# Altium schematic symbol library Luminary+Micro.SchLib: 208 symbols (part 3 of 5)
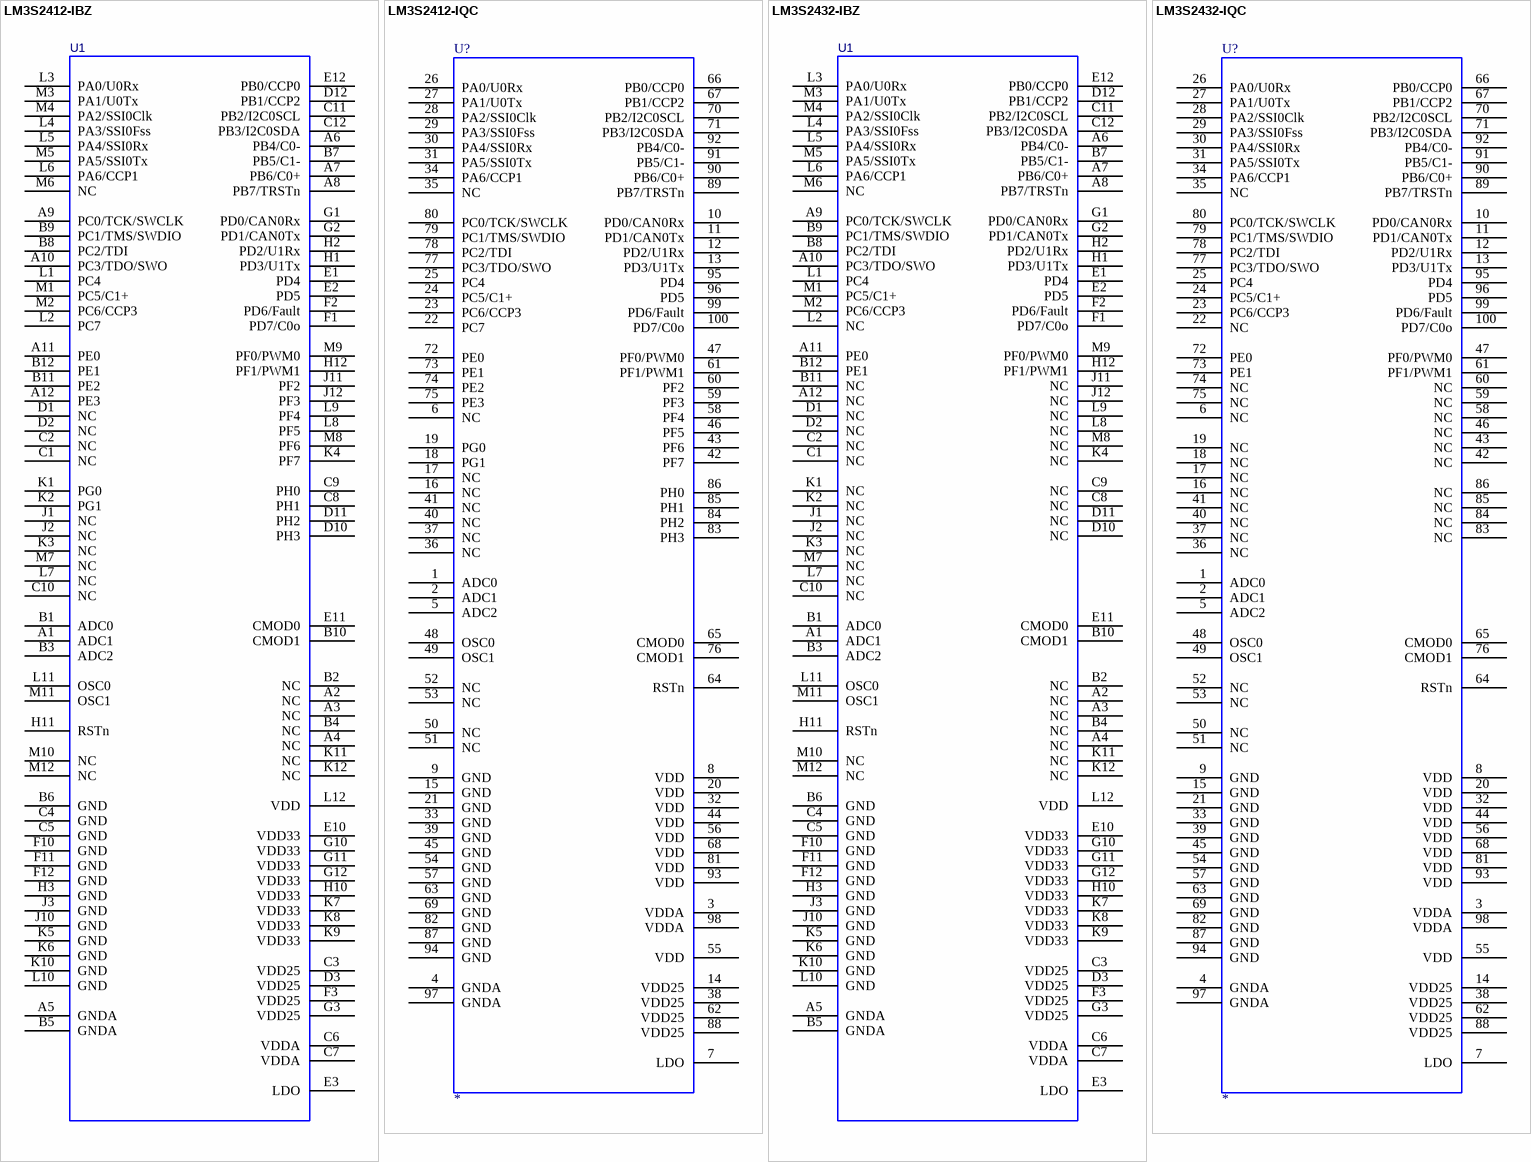
[diagram p50: symbols LM3S2412-IBZ to LM3S2432-IQC]

## LM3S2432-IBZ
designator U1
Stellaris ARM Cortex-M3 Microcontroller; MFG: Luminary Micro; Ordering: LM3S2432-IBZ; LMI Class: Fury
footprint BGA108C80P12X12_1000X1000X150 (BGA, 108-Leads, Body 10.0x10.0mm,  Pitch 0.80mm)
pins: A1 ADC1, A2 NC, A3 NC, A4 NC, A5 GNDA, A6 PB4/C0-, A7 PB6/C0+, A8 PB7/TRSTn, A9 PC0/TCK/SWCLK, A10 PC3/TDO/SWO, A11 PE0, A12 NC, B1 ADC0, B2 NC, B3 ADC2, B4 NC, B5 GNDA, B6 GND, B7 PB5/C1-, B8 PC2/TDI, B9 PC1/TMS/SWDIO, B10 CMOD1, B11 NC, B12 PE1, C1 NC, C2 NC, C3 VDD25, C4 GND, C5 GND, C6 VDDA, C7 VDDA, C8 NC, C9 NC, C10 NC, C11 PB2/I2C0SCL, C12 PB3/I2C0SDA, D1 NC, D2 NC, D3 VDD25, D10 NC, D11 NC, D12 PB1/CCP2, E1 PD4, E2 PD5, E3 LDO, E10 VDD33, E11 CMOD0, E12 PB0/CCP0, F1 PD7/C0o, F2 PD6/Fault, F3 VDD25, F10 GND, F11 GND, F12 GND, G1 PD0/CAN0Rx, G2 PD1/CAN0Tx, G3 VDD25, G10 VDD33, G11 VDD33, G12 VDD33, H1 PD3/U1Tx, H2 PD2/U1Rx, H3 GND, H10 VDD33, H11 RSTn, H12 PF1/PWM1, J1 NC, J2 NC, J3 GND, J10 GND, J11 NC, J12 NC, K1 NC, K2 NC, K3 NC, K4 NC, K5 GND, K6 GND, K7 VDD33, K8 VDD33, K9 VDD33, K10 GND, K11 NC, K12 NC, L1 PC4, L2 NC, L3 PA0/U0Rx, L4 PA3/SSI0Fss, L5 PA4/SSI0Rx, L6 PA6/CCP1, L7 NC, L8 NC, L9 NC, L10 GND, L11 OSC0, L12 VDD, M1 PC5/C1+, M2 PC6/CCP3, M3 PA1/U0Tx, M4 PA2/SSI0Clk, M5 PA5/SSI0Tx, M6 NC, M7 NC, M8 NC, M9 PF0/PWM0, M10 NC, M11 OSC1, M12 NC

## LM3S2432-IQC
designator U?
Stellaris ARM Cortex-M3 Microcontroller; MFG: Luminary Micro; Ordering: LM3S2432-IQC; LMI Class: Fury
footprint QFP50P1600X1600X160-100N
pins: 1 ADC0, 2 ADC1, 3 VDDA, 4 GNDA, 5 ADC2, 6 NC, 7 LDO, 8 VDD, 9 GND, 10 PD0/CAN0Rx, 11 PD1/CAN0Tx, 12 PD2/U1Rx, 13 PD3/U1Tx, 14 VDD25, 15 GND, 16 NC, 17 NC, 18 NC, 19 NC, 20 VDD, 21 GND, 22 NC, 23 PC6/CCP3, 24 PC5/C1+, 25 PC4, 26 PA0/U0Rx, 27 PA1/U0Tx, 28 PA2/SSI0Clk, 29 PA3/SSI0Fss, 30 PA4/SSI0Rx, 31 PA5/SSI0Tx, 32 VDD, 33 GND, 34 PA6/CCP1, 35 NC, 36 NC, 37 NC, 38 VDD25, 39 GND, 40 NC, 41 NC, 42 NC, 43 NC, 44 VDD, 45 GND, 46 NC, 47 PF0/PWM0, 48 OSC0, 49 OSC1, 50 NC, 51 NC, 52 NC, 53 NC, 54 GND, 55 VDD, 56 VDD, 57 GND, 58 NC, 59 NC, 60 NC, 61 PF1/PWM1, 62 VDD25, 63 GND, 64 RSTn, 65 CMOD0, 66 PB0/CCP0, 67 PB1/CCP2, 68 VDD, 69 GND, 70 PB2/I2C0SCL, 71 PB3/I2C0SDA, 72 PE0, 73 PE1, 74 NC, 75 NC, 76 CMOD1, 77 PC3/TDO/SWO, 78 PC2/TDI, 79 PC1/TMS/SWDIO, 80 PC0/TCK/SWCLK, 81 VDD, 82 GND, 83 NC, 84 NC, 85 NC, 86 NC, 87 GND, 88 VDD25, 89 PB7/TRSTn, 90 PB6/C0+, 91 PB5/C1-, 92 PB4/C0-, 93 VDD, 94 GND, 95 PD4, 96 PD5, 97 GNDA, 98 VDDA, 99 PD6/Fault, 100 PD7/C0o

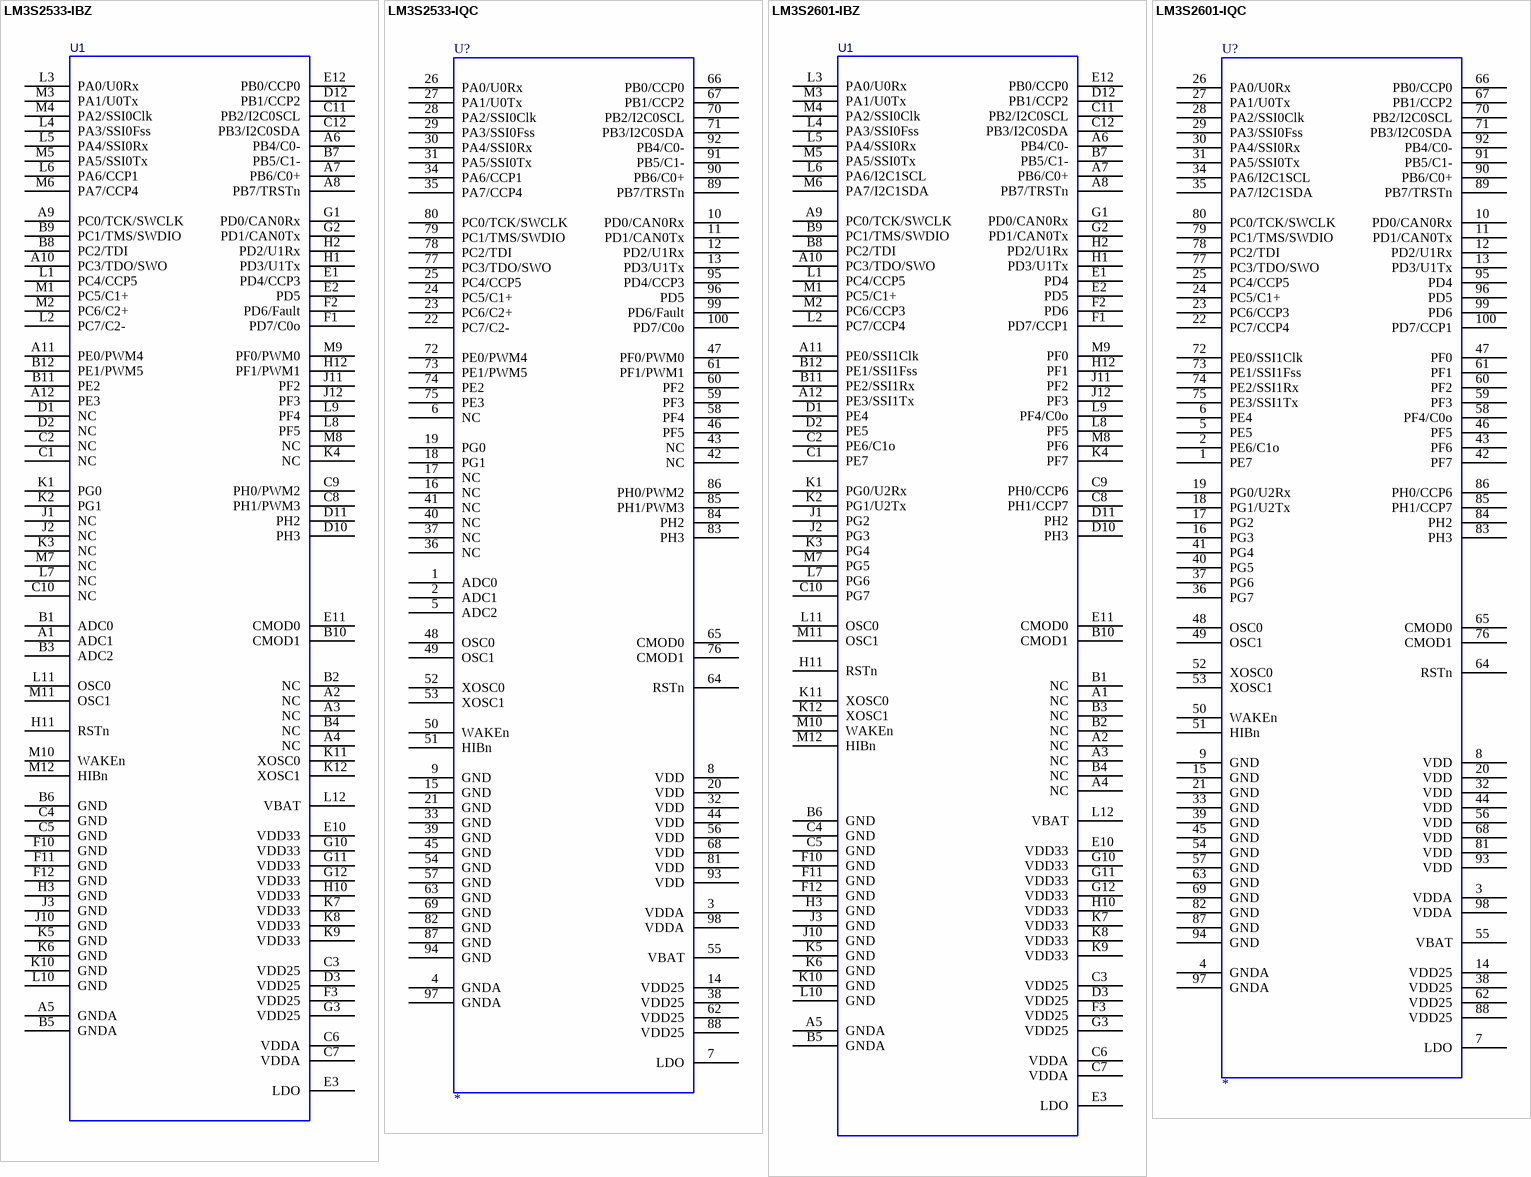
[diagram p20: symbols LM3S2533-IBZ to LM3S2601-IQC]

## LM3S2533-IBZ
designator U1
Stellaris ARM Cortex-M3 Microcontroller; MFG: Luminary Micro; Ordering: LM3S2533-IBZ; LMI Class: Fury
footprint BGA108C80P12X12_1000X1000X150 (BGA, 108-Leads, Body 10.0x10.0mm,  Pitch 0.80mm)
pins: A1 ADC1, A2 NC, A3 NC, A4 NC, A5 GNDA, A6 PB4/C0-, A7 PB6/C0+, A8 PB7/TRSTn, A9 PC0/TCK/SWCLK, A10 PC3/TDO/SWO, A11 PE0/PWM4, A12 PE3, B1 ADC0, B2 NC, B3 ADC2, B4 NC, B5 GNDA, B6 GND, B7 PB5/C1-, B8 PC2/TDI, B9 PC1/TMS/SWDIO, B10 CMOD1, B11 PE2, B12 PE1/PWM5, C1 NC, C2 NC, C3 VDD25, C4 GND, C5 GND, C6 VDDA, C7 VDDA, C8 PH1/PWM3, C9 PH0/PWM2, C10 NC, C11 PB2/I2C0SCL, C12 PB3/I2C0SDA, D1 NC, D2 NC, D3 VDD25, D10 PH3, D11 PH2, D12 PB1/CCP2, E1 PD4/CCP3, E2 PD5, E3 LDO, E10 VDD33, E11 CMOD0, E12 PB0/CCP0, F1 PD7/C0o, F2 PD6/Fault, F3 VDD25, F10 GND, F11 GND, F12 GND, G1 PD0/CAN0Rx, G2 PD1/CAN0Tx, G3 VDD25, G10 VDD33, G11 VDD33, G12 VDD33, H1 PD3/U1Tx, H2 PD2/U1Rx, H3 GND, H10 VDD33, H11 RSTn, H12 PF1/PWM1, J1 NC, J2 NC, J3 GND, J10 GND, J11 PF2, J12 PF3, K1 PG0, K2 PG1, K3 NC, K4 NC, K5 GND, K6 GND, K7 VDD33, K8 VDD33, K9 VDD33, K10 GND, K11 XOSC0, K12 XOSC1, L1 PC4/CCP5, L2 PC7/C2-, L3 PA0/U0Rx, L4 PA3/SSI0Fss, L5 PA4/SSI0Rx, L6 PA6/CCP1, L7 NC, L8 PF5, L9 PF4, L10 GND, L11 OSC0, L12 VBAT, M1 PC5/C1+, M2 PC6/C2+, M3 PA1/U0Tx, M4 PA2/SSI0Clk, M5 PA5/SSI0Tx, M6 PA7/CCP4, M7 NC, M8 NC, M9 PF0/PWM0, M10 WAKEn, M11 OSC1, M12 HIBn

## LM3S2533-IQC
designator U?
Stellaris ARM Cortex-M3 Microcontroller; MFG: Luminary Micro; Ordering: LM3S2533-IQC; LMI Class: Fury
footprint QFP50P1600X1600X160-100N
pins: 1 ADC0, 2 ADC1, 3 VDDA, 4 GNDA, 5 ADC2, 6 NC, 7 LDO, 8 VDD, 9 GND, 10 PD0/CAN0Rx, 11 PD1/CAN0Tx, 12 PD2/U1Rx, 13 PD3/U1Tx, 14 VDD25, 15 GND, 16 NC, 17 NC, 18 PG1, 19 PG0, 20 VDD, 21 GND, 22 PC7/C2-, 23 PC6/C2+, 24 PC5/C1+, 25 PC4/CCP5, 26 PA0/U0Rx, 27 PA1/U0Tx, 28 PA2/SSI0Clk, 29 PA3/SSI0Fss, 30 PA4/SSI0Rx, 31 PA5/SSI0Tx, 32 VDD, 33 GND, 34 PA6/CCP1, 35 PA7/CCP4, 36 NC, 37 NC, 38 VDD25, 39 GND, 40 NC, 41 NC, 42 NC, 43 NC, 44 VDD, 45 GND, 46 PF5, 47 PF0/PWM0, 48 OSC0, 49 OSC1, 50 WAKEn, 51 HIBn, 52 XOSC0, 53 XOSC1, 54 GND, 55 VBAT, 56 VDD, 57 GND, 58 PF4, 59 PF3, 60 PF2, 61 PF1/PWM1, 62 VDD25, 63 GND, 64 RSTn, 65 CMOD0, 66 PB0/CCP0, 67 PB1/CCP2, 68 VDD, 69 GND, 70 PB2/I2C0SCL, 71 PB3/I2C0SDA, 72 PE0/PWM4, 73 PE1/PWM5, 74 PE2, 75 PE3, 76 CMOD1, 77 PC3/TDO/SWO, 78 PC2/TDI, 79 PC1/TMS/SWDIO, 80 PC0/TCK/SWCLK, 81 VDD, 82 GND, 83 PH3, 84 PH2, 85 PH1/PWM3, 86 PH0/PWM2, 87 GND, 88 VDD25, 89 PB7/TRSTn, 90 PB6/C0+, 91 PB5/C1-, 92 PB4/C0-, 93 VDD, 94 GND, 95 PD4/CCP3, 96 PD5, 97 GNDA, 98 VDDA, 99 PD6/Fault, 100 PD7/C0o

## LM3S2601-IBZ
designator U1
Stellaris ARM Cortex-M3 Microcontroller; MFG: Luminary Micro; Ordering: LM3S2601-IBZ; LMI Class: Fury
footprint BGA108C80P12X12_1000X1000X150 (BGA, 108-Leads, Body 10.0x10.0mm,  Pitch 0.80mm)
pins: A1 NC, A2 NC, A3 NC, A4 NC, A5 GNDA, A6 PB4/C0-, A7 PB6/C0+, A8 PB7/TRSTn, A9 PC0/TCK/SWCLK, A10 PC3/TDO/SWO, A11 PE0/SSI1Clk, A12 PE3/SSI1Tx, B1 NC, B2 NC, B3 NC, B4 NC, B5 GNDA, B6 GND, B7 PB5/C1-, B8 PC2/TDI, B9 PC1/TMS/SWDIO, B10 CMOD1, B11 PE2/SSI1Rx, B12 PE1/SSI1Fss, C1 PE7, C2 PE6/C1o, C3 VDD25, C4 GND, C5 GND, C6 VDDA, C7 VDDA, C8 PH1/CCP7, C9 PH0/CCP6, C10 PG7, C11 PB2/I2C0SCL, C12 PB3/I2C0SDA, D1 PE4, D2 PE5, D3 VDD25, D10 PH3, D11 PH2, D12 PB1/CCP2, E1 PD4, E2 PD5, E3 LDO, E10 VDD33, E11 CMOD0, E12 PB0/CCP0, F1 PD7/CCP1, F2 PD6, F3 VDD25, F10 GND, F11 GND, F12 GND, G1 PD0/CAN0Rx, G2 PD1/CAN0Tx, G3 VDD25, G10 VDD33, G11 VDD33, G12 VDD33, H1 PD3/U1Tx, H2 PD2/U1Rx, H3 GND, H10 VDD33, H11 RSTn, H12 PF1, J1 PG2, J2 PG3, J3 GND, J10 GND, J11 PF2, J12 PF3, K1 PG0/U2Rx, K2 PG1/U2Tx, K3 PG4, K4 PF7, K5 GND, K6 GND, K7 VDD33, K8 VDD33, K9 VDD33, K10 GND, K11 XOSC0, K12 XOSC1, L1 PC4/CCP5, L2 PC7/CCP4, L3 PA0/U0Rx, L4 PA3/SSI0Fss, L5 PA4/SSI0Rx, L6 PA6/I2C1SCL, L7 PG6, L8 PF5, L9 PF4/C0o, L10 GND, L11 OSC0, L12 VBAT, M1 PC5/C1+, M2 PC6/CCP3, M3 PA1/U0Tx, M4 PA2/SSI0Clk, M5 PA5/SSI0Tx, M6 PA7/I2C1SDA, M7 PG5, M8 PF6, M9 PF0, M10 WAKEn, M11 OSC1, M12 HIBn

## LM3S2601-IQC
designator U?
Stellaris ARM Cortex-M3 Microcontroller; MFG: Luminary Micro; Ordering: LM3S2601-IQC; LMI Class: Fury
footprint QFP50P1600X1600X160-100N
pins: 1 PE7, 2 PE6/C1o, 3 VDDA, 4 GNDA, 5 PE5, 6 PE4, 7 LDO, 8 VDD, 9 GND, 10 PD0/CAN0Rx, 11 PD1/CAN0Tx, 12 PD2/U1Rx, 13 PD3/U1Tx, 14 VDD25, 15 GND, 16 PG3, 17 PG2, 18 PG1/U2Tx, 19 PG0/U2Rx, 20 VDD, 21 GND, 22 PC7/CCP4, 23 PC6/CCP3, 24 PC5/C1+, 25 PC4/CCP5, 26 PA0/U0Rx, 27 PA1/U0Tx, 28 PA2/SSI0Clk, 29 PA3/SSI0Fss, 30 PA4/SSI0Rx, 31 PA5/SSI0Tx, 32 VDD, 33 GND, 34 PA6/I2C1SCL, 35 PA7/I2C1SDA, 36 PG7, 37 PG6, 38 VDD25, 39 GND, 40 PG5, 41 PG4, 42 PF7, 43 PF6, 44 VDD, 45 GND, 46 PF5, 47 PF0, 48 OSC0, 49 OSC1, 50 WAKEn, 51 HIBn, 52 XOSC0, 53 XOSC1, 54 GND, 55 VBAT, 56 VDD, 57 GND, 58 PF4/C0o, 59 PF3, 60 PF2, 61 PF1, 62 VDD25, 63 GND, 64 RSTn, 65 CMOD0, 66 PB0/CCP0, 67 PB1/CCP2, 68 VDD, 69 GND, 70 PB2/I2C0SCL, 71 PB3/I2C0SDA, 72 PE0/SSI1Clk, 73 PE1/SSI1Fss, 74 PE2/SSI1Rx, 75 PE3/SSI1Tx, 76 CMOD1, 77 PC3/TDO/SWO, 78 PC2/TDI, 79 PC1/TMS/SWDIO, 80 PC0/TCK/SWCLK, 81 VDD, 82 GND, 83 PH3, 84 PH2, 85 PH1/CCP7, 86 PH0/CCP6, 87 GND, 88 VDD25, 89 PB7/TRSTn, 90 PB6/C0+, 91 PB5/C1-, 92 PB4/C0-, 93 VDD, 94 GND, 95 PD4, 96 PD5, 97 GNDA, 98 VDDA, 99 PD6, 100 PD7/CCP1

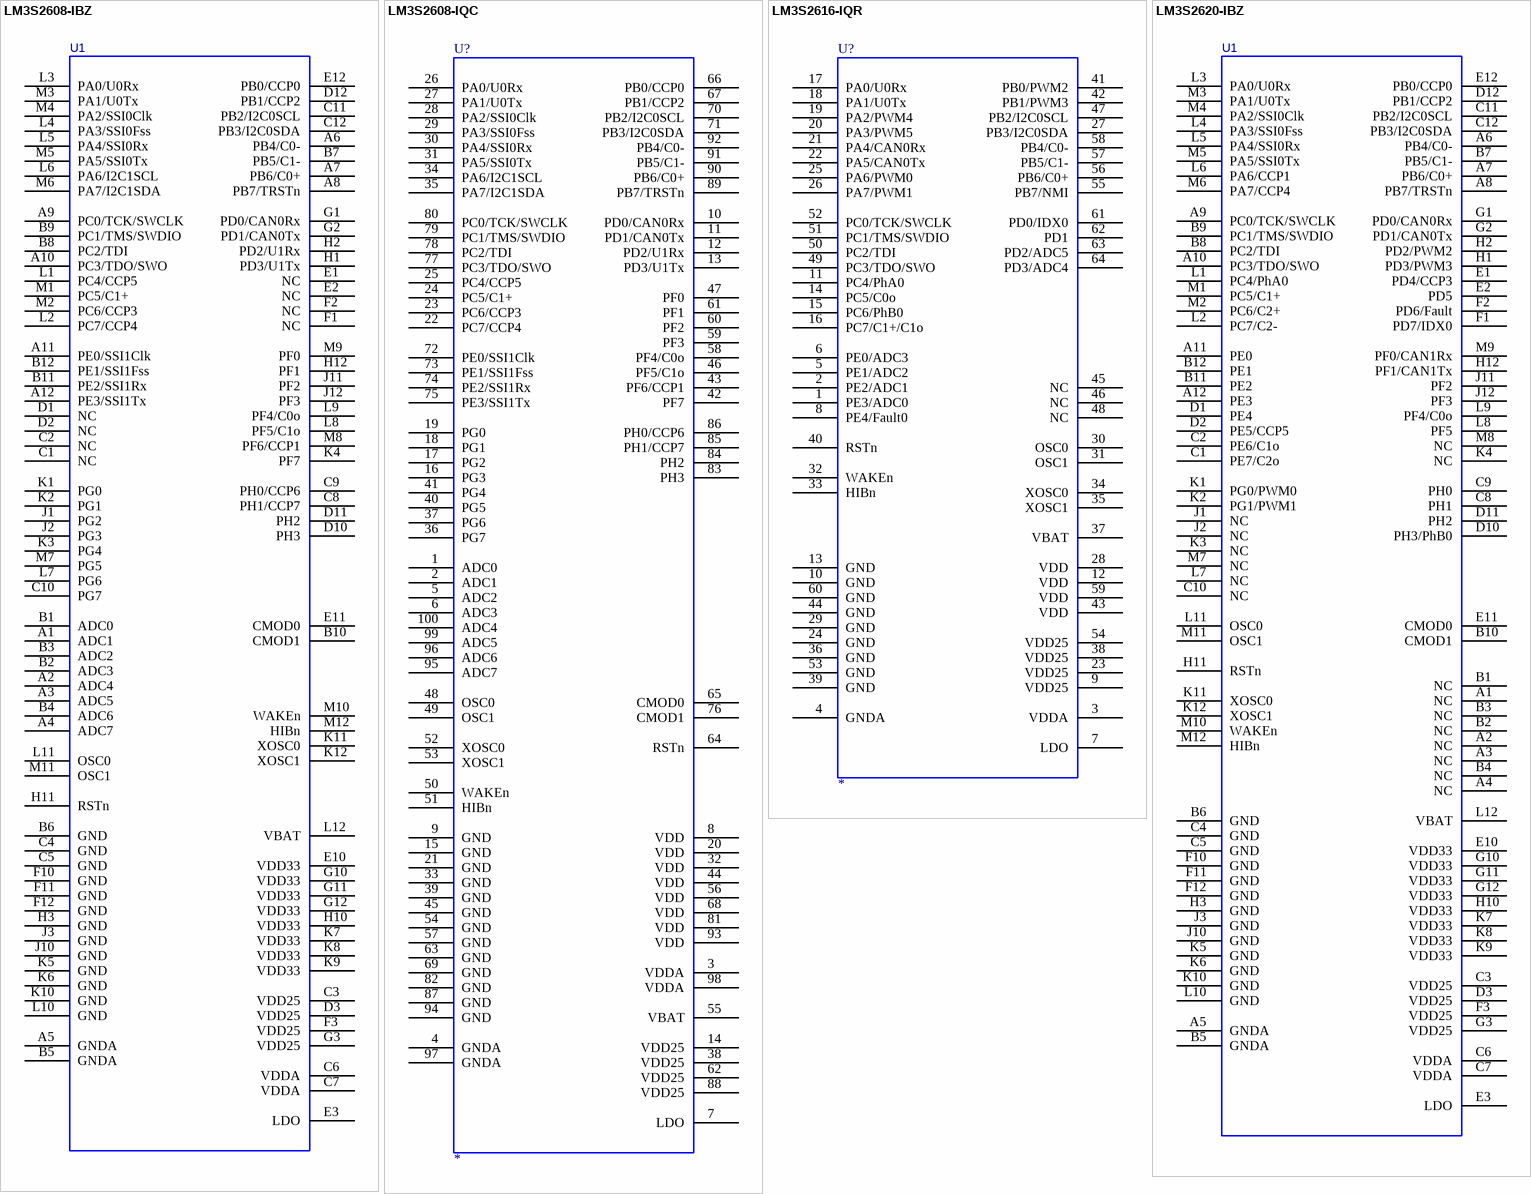
[diagram p21: symbols LM3S2608-IBZ to LM3S2620-IBZ]

## LM3S2608-IBZ
designator U1
Stellaris ARM Cortex-M3 Microcontroller; MFG: Luminary Micro; Ordering: LM3S2608-IBZ; LMI Class: Fury
footprint BGA108C80P12X12_1000X1000X150 (BGA, 108-Leads, Body 10.0x10.0mm,  Pitch 0.80mm)
pins: A1 ADC1, A2 ADC4, A3 ADC5, A4 ADC7, A5 GNDA, A6 PB4/C0-, A7 PB6/C0+, A8 PB7/TRSTn, A9 PC0/TCK/SWCLK, A10 PC3/TDO/SWO, A11 PE0/SSI1Clk, A12 PE3/SSI1Tx, B1 ADC0, B2 ADC3, B3 ADC2, B4 ADC6, B5 GNDA, B6 GND, B7 PB5/C1-, B8 PC2/TDI, B9 PC1/TMS/SWDIO, B10 CMOD1, B11 PE2/SSI1Rx, B12 PE1/SSI1Fss, C1 NC, C2 NC, C3 VDD25, C4 GND, C5 GND, C6 VDDA, C7 VDDA, C8 PH1/CCP7, C9 PH0/CCP6, C10 PG7, C11 PB2/I2C0SCL, C12 PB3/I2C0SDA, D1 NC, D2 NC, D3 VDD25, D10 PH3, D11 PH2, D12 PB1/CCP2, E1 NC, E2 NC, E3 LDO, E10 VDD33, E11 CMOD0, E12 PB0/CCP0, F1 NC, F2 NC, F3 VDD25, F10 GND, F11 GND, F12 GND, G1 PD0/CAN0Rx, G2 PD1/CAN0Tx, G3 VDD25, G10 VDD33, G11 VDD33, G12 VDD33, H1 PD3/U1Tx, H2 PD2/U1Rx, H3 GND, H10 VDD33, H11 RSTn, H12 PF1, J1 PG2, J2 PG3, J3 GND, J10 GND, J11 PF2, J12 PF3, K1 PG0, K2 PG1, K3 PG4, K4 PF7, K5 GND, K6 GND, K7 VDD33, K8 VDD33, K9 VDD33, K10 GND, K11 XOSC0, K12 XOSC1, L1 PC4/CCP5, L2 PC7/CCP4, L3 PA0/U0Rx, L4 PA3/SSI0Fss, L5 PA4/SSI0Rx, L6 PA6/I2C1SCL, L7 PG6, L8 PF5/C1o, L9 PF4/C0o, L10 GND, L11 OSC0, L12 VBAT, M1 PC5/C1+, M2 PC6/CCP3, M3 PA1/U0Tx, M4 PA2/SSI0Clk, M5 PA5/SSI0Tx, M6 PA7/I2C1SDA, M7 PG5, M8 PF6/CCP1, M9 PF0, M10 WAKEn, M11 OSC1, M12 HIBn

## LM3S2608-IQC
designator U?
Stellaris ARM Cortex-M3 Microcontroller; MFG: Luminary Micro; Ordering: LM3S2608-IQC; LMI Class: Fury
footprint QFP50P1600X1600X160-100N
pins: 1 ADC0, 2 ADC1, 3 VDDA, 4 GNDA, 5 ADC2, 6 ADC3, 7 LDO, 8 VDD, 9 GND, 10 PD0/CAN0Rx, 11 PD1/CAN0Tx, 12 PD2/U1Rx, 13 PD3/U1Tx, 14 VDD25, 15 GND, 16 PG3, 17 PG2, 18 PG1, 19 PG0, 20 VDD, 21 GND, 22 PC7/CCP4, 23 PC6/CCP3, 24 PC5/C1+, 25 PC4/CCP5, 26 PA0/U0Rx, 27 PA1/U0Tx, 28 PA2/SSI0Clk, 29 PA3/SSI0Fss, 30 PA4/SSI0Rx, 31 PA5/SSI0Tx, 32 VDD, 33 GND, 34 PA6/I2C1SCL, 35 PA7/I2C1SDA, 36 PG7, 37 PG6, 38 VDD25, 39 GND, 40 PG5, 41 PG4, 42 PF7, 43 PF6/CCP1, 44 VDD, 45 GND, 46 PF5/C1o, 47 PF0, 48 OSC0, 49 OSC1, 50 WAKEn, 51 HIBn, 52 XOSC0, 53 XOSC1, 54 GND, 55 VBAT, 56 VDD, 57 GND, 58 PF4/C0o, 59 PF3, 60 PF2, 61 PF1, 62 VDD25, 63 GND, 64 RSTn, 65 CMOD0, 66 PB0/CCP0, 67 PB1/CCP2, 68 VDD, 69 GND, 70 PB2/I2C0SCL, 71 PB3/I2C0SDA, 72 PE0/SSI1Clk, 73 PE1/SSI1Fss, 74 PE2/SSI1Rx, 75 PE3/SSI1Tx, 76 CMOD1, 77 PC3/TDO/SWO, 78 PC2/TDI, 79 PC1/TMS/SWDIO, 80 PC0/TCK/SWCLK, 81 VDD, 82 GND, 83 PH3, 84 PH2, 85 PH1/CCP7, 86 PH0/CCP6, 87 GND, 88 VDD25, 89 PB7/TRSTn, 90 PB6/C0+, 91 PB5/C1-, 92 PB4/C0-, 93 VDD, 94 GND, 95 ADC7, 96 ADC6, 97 GNDA, 98 VDDA, 99 ADC5, 100 ADC4

## LM3S2616-IQR
designator U?
Stellaris ARM Cortex-M3 Microcontroller; MFG: Luminary Micro; Ordering: LM3S2616-IQR; LMI Class: Dust Devil
footprint QFP50P1200X1200X160-64N
pins: 1 PE3/ADC0, 2 PE2/ADC1, 3 VDDA, 4 GNDA, 5 PE1/ADC2, 6 PE0/ADC3, 7 LDO, 8 PE4/Fault0, 9 VDD25, 10 GND, 11 PC4/PhA0, 12 VDD, 13 GND, 14 PC5/C0o, 15 PC6/PhB0, 16 PC7/C1+/C1o, 17 PA0/U0Rx, 18 PA1/U0Tx, 19 PA2/PWM4, 20 PA3/PWM5, 21 PA4/CAN0Rx, 22 PA5/CAN0Tx, 23 VDD25, 24 GND, 25 PA6/PWM0, 26 PA7/PWM1, 27 PB3/I2C0SDA, 28 VDD, 29 GND, 30 OSC0, 31 OSC1, 32 WAKEn, 33 HIBn, 34 XOSC0, 35 XOSC1, 36 GND, 37 VBAT, 38 VDD25, 39 GND, 40 RSTn, 41 PB0/PWM2, 42 PB1/PWM3, 43 VDD, 44 GND, 45 NC, 46 NC, 47 PB2/I2C0SCL, 48 NC, 49 PC3/TDO/SWO, 50 PC2/TDI, 51 PC1/TMS/SWDIO, 52 PC0/TCK/SWCLK, 53 GND, 54 VDD25, 55 PB7/NMI, 56 PB6/C0+, 57 PB5/C1-, 58 PB4/C0-, 59 VDD, 60 GND, 61 PD0/IDX0, 62 PD1, 63 PD2/ADC5, 64 PD3/ADC4

## LM3S2620-IBZ
designator U1
Stellaris ARM Cortex-M3 Microcontroller; MFG: Luminary Micro; Ordering: LM3S2620-IBZ; LMI Class: Fury
footprint BGA108C80P12X12_1000X1000X150 (BGA, 108-Leads, Body 10.0x10.0mm,  Pitch 0.80mm)
pins: A1 NC, A2 NC, A3 NC, A4 NC, A5 GNDA, A6 PB4/C0-, A7 PB6/C0+, A8 PB7/TRSTn, A9 PC0/TCK/SWCLK, A10 PC3/TDO/SWO, A11 PE0, A12 PE3, B1 NC, B2 NC, B3 NC, B4 NC, B5 GNDA, B6 GND, B7 PB5/C1-, B8 PC2/TDI, B9 PC1/TMS/SWDIO, B10 CMOD1, B11 PE2, B12 PE1, C1 PE7/C2o, C2 PE6/C1o, C3 VDD25, C4 GND, C5 GND, C6 VDDA, C7 VDDA, C8 PH1, C9 PH0, C10 NC, C11 PB2/I2C0SCL, C12 PB3/I2C0SDA, D1 PE4, D2 PE5/CCP5, D3 VDD25, D10 PH3/PhB0, D11 PH2, D12 PB1/CCP2, E1 PD4/CCP3, E2 PD5, E3 LDO, E10 VDD33, E11 CMOD0, E12 PB0/CCP0, F1 PD7/IDX0, F2 PD6/Fault, F3 VDD25, F10 GND, F11 GND, F12 GND, G1 PD0/CAN0Rx, G2 PD1/CAN0Tx, G3 VDD25, G10 VDD33, G11 VDD33, G12 VDD33, H1 PD3/PWM3, H2 PD2/PWM2, H3 GND, H10 VDD33, H11 RSTn, H12 PF1/CAN1Tx, J1 NC, J2 NC, J3 GND, J10 GND, J11 PF2, J12 PF3, K1 PG0/PWM0, K2 PG1/PWM1, K3 NC, K4 NC, K5 GND, K6 GND, K7 VDD33, K8 VDD33, K9 VDD33, K10 GND, K11 XOSC0, K12 XOSC1, L1 PC4/PhA0, L2 PC7/C2-, L3 PA0/U0Rx, L4 PA3/SSI0Fss, L5 PA4/SSI0Rx, L6 PA6/CCP1, L7 NC, L8 PF5, L9 PF4/C0o, L10 GND, L11 OSC0, L12 VBAT, M1 PC5/C1+, M2 PC6/C2+, M3 PA1/U0Tx, M4 PA2/SSI0Clk, M5 PA5/SSI0Tx, M6 PA7/CCP4, M7 NC, M8 NC, M9 PF0/CAN1Rx, M10 WAKEn, M11 OSC1, M12 HIBn

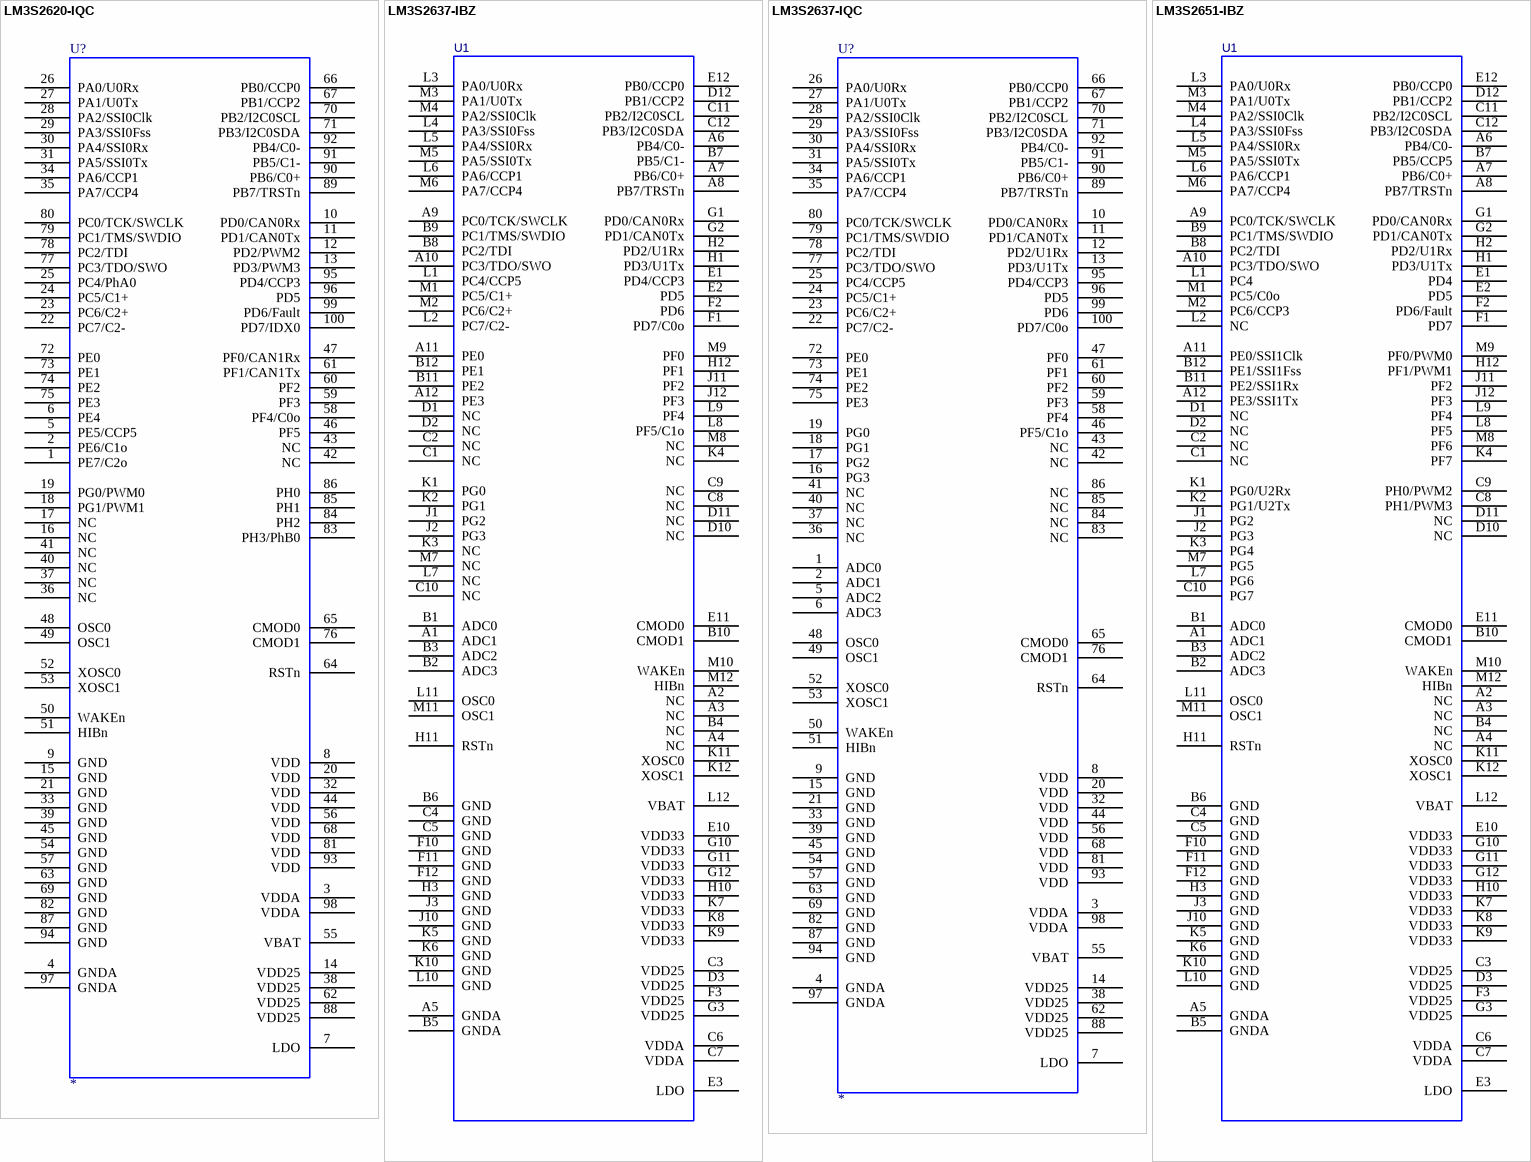
[diagram p22: symbols LM3S2620-IQC to LM3S2651-IBZ]

## LM3S2620-IQC
designator U?
Stellaris ARM Cortex-M3 Microcontroller; MFG: Luminary Micro; Ordering: LM3S2620-IQC; LMI Class: Fury
footprint QFP50P1600X1600X160-100N
pins: 1 PE7/C2o, 2 PE6/C1o, 3 VDDA, 4 GNDA, 5 PE5/CCP5, 6 PE4, 7 LDO, 8 VDD, 9 GND, 10 PD0/CAN0Rx, 11 PD1/CAN0Tx, 12 PD2/PWM2, 13 PD3/PWM3, 14 VDD25, 15 GND, 16 NC, 17 NC, 18 PG1/PWM1, 19 PG0/PWM0, 20 VDD, 21 GND, 22 PC7/C2-, 23 PC6/C2+, 24 PC5/C1+, 25 PC4/PhA0, 26 PA0/U0Rx, 27 PA1/U0Tx, 28 PA2/SSI0Clk, 29 PA3/SSI0Fss, 30 PA4/SSI0Rx, 31 PA5/SSI0Tx, 32 VDD, 33 GND, 34 PA6/CCP1, 35 PA7/CCP4, 36 NC, 37 NC, 38 VDD25, 39 GND, 40 NC, 41 NC, 42 NC, 43 NC, 44 VDD, 45 GND, 46 PF5, 47 PF0/CAN1Rx, 48 OSC0, 49 OSC1, 50 WAKEn, 51 HIBn, 52 XOSC0, 53 XOSC1, 54 GND, 55 VBAT, 56 VDD, 57 GND, 58 PF4/C0o, 59 PF3, 60 PF2, 61 PF1/CAN1Tx, 62 VDD25, 63 GND, 64 RSTn, 65 CMOD0, 66 PB0/CCP0, 67 PB1/CCP2, 68 VDD, 69 GND, 70 PB2/I2C0SCL, 71 PB3/I2C0SDA, 72 PE0, 73 PE1, 74 PE2, 75 PE3, 76 CMOD1, 77 PC3/TDO/SWO, 78 PC2/TDI, 79 PC1/TMS/SWDIO, 80 PC0/TCK/SWCLK, 81 VDD, 82 GND, 83 PH3/PhB0, 84 PH2, 85 PH1, 86 PH0, 87 GND, 88 VDD25, 89 PB7/TRSTn, 90 PB6/C0+, 91 PB5/C1-, 92 PB4/C0-, 93 VDD, 94 GND, 95 PD4/CCP3, 96 PD5, 97 GNDA, 98 VDDA, 99 PD6/Fault, 100 PD7/IDX0

## LM3S2637-IBZ
designator U1
Stellaris ARM Cortex-M3 Microcontroller; MFG: Luminary Micro; Ordering: LM3S2637-IBZ; LMI Class: Fury
footprint BGA108C80P12X12_1000X1000X150 (BGA, 108-Leads, Body 10.0x10.0mm,  Pitch 0.80mm)
pins: A1 ADC1, A2 NC, A3 NC, A4 NC, A5 GNDA, A6 PB4/C0-, A7 PB6/C0+, A8 PB7/TRSTn, A9 PC0/TCK/SWCLK, A10 PC3/TDO/SWO, A11 PE0, A12 PE3, B1 ADC0, B2 ADC3, B3 ADC2, B4 NC, B5 GNDA, B6 GND, B7 PB5/C1-, B8 PC2/TDI, B9 PC1/TMS/SWDIO, B10 CMOD1, B11 PE2, B12 PE1, C1 NC, C2 NC, C3 VDD25, C4 GND, C5 GND, C6 VDDA, C7 VDDA, C8 NC, C9 NC, C10 NC, C11 PB2/I2C0SCL, C12 PB3/I2C0SDA, D1 NC, D2 NC, D3 VDD25, D10 NC, D11 NC, D12 PB1/CCP2, E1 PD4/CCP3, E2 PD5, E3 LDO, E10 VDD33, E11 CMOD0, E12 PB0/CCP0, F1 PD7/C0o, F2 PD6, F3 VDD25, F10 GND, F11 GND, F12 GND, G1 PD0/CAN0Rx, G2 PD1/CAN0Tx, G3 VDD25, G10 VDD33, G11 VDD33, G12 VDD33, H1 PD3/U1Tx, H2 PD2/U1Rx, H3 GND, H10 VDD33, H11 RSTn, H12 PF1, J1 PG2, J2 PG3, J3 GND, J10 GND, J11 PF2, J12 PF3, K1 PG0, K2 PG1, K3 NC, K4 NC, K5 GND, K6 GND, K7 VDD33, K8 VDD33, K9 VDD33, K10 GND, K11 XOSC0, K12 XOSC1, L1 PC4/CCP5, L2 PC7/C2-, L3 PA0/U0Rx, L4 PA3/SSI0Fss, L5 PA4/SSI0Rx, L6 PA6/CCP1, L7 NC, L8 PF5/C1o, L9 PF4, L10 GND, L11 OSC0, L12 VBAT, M1 PC5/C1+, M2 PC6/C2+, M3 PA1/U0Tx, M4 PA2/SSI0Clk, M5 PA5/SSI0Tx, M6 PA7/CCP4, M7 NC, M8 NC, M9 PF0, M10 WAKEn, M11 OSC1, M12 HIBn

## LM3S2637-IQC
designator U?
Stellaris ARM Cortex-M3 Microcontroller; MFG: Luminary Micro; Ordering: LM3S2637-IQC; LMI Class: Fury
footprint QFP50P1600X1600X160-100N
pins: 1 ADC0, 2 ADC1, 3 VDDA, 4 GNDA, 5 ADC2, 6 ADC3, 7 LDO, 8 VDD, 9 GND, 10 PD0/CAN0Rx, 11 PD1/CAN0Tx, 12 PD2/U1Rx, 13 PD3/U1Tx, 14 VDD25, 15 GND, 16 PG3, 17 PG2, 18 PG1, 19 PG0, 20 VDD, 21 GND, 22 PC7/C2-, 23 PC6/C2+, 24 PC5/C1+, 25 PC4/CCP5, 26 PA0/U0Rx, 27 PA1/U0Tx, 28 PA2/SSI0Clk, 29 PA3/SSI0Fss, 30 PA4/SSI0Rx, 31 PA5/SSI0Tx, 32 VDD, 33 GND, 34 PA6/CCP1, 35 PA7/CCP4, 36 NC, 37 NC, 38 VDD25, 39 GND, 40 NC, 41 NC, 42 NC, 43 NC, 44 VDD, 45 GND, 46 PF5/C1o, 47 PF0, 48 OSC0, 49 OSC1, 50 WAKEn, 51 HIBn, 52 XOSC0, 53 XOSC1, 54 GND, 55 VBAT, 56 VDD, 57 GND, 58 PF4, 59 PF3, 60 PF2, 61 PF1, 62 VDD25, 63 GND, 64 RSTn, 65 CMOD0, 66 PB0/CCP0, 67 PB1/CCP2, 68 VDD, 69 GND, 70 PB2/I2C0SCL, 71 PB3/I2C0SDA, 72 PE0, 73 PE1, 74 PE2, 75 PE3, 76 CMOD1, 77 PC3/TDO/SWO, 78 PC2/TDI, 79 PC1/TMS/SWDIO, 80 PC0/TCK/SWCLK, 81 VDD, 82 GND, 83 NC, 84 NC, 85 NC, 86 NC, 87 GND, 88 VDD25, 89 PB7/TRSTn, 90 PB6/C0+, 91 PB5/C1-, 92 PB4/C0-, 93 VDD, 94 GND, 95 PD4/CCP3, 96 PD5, 97 GNDA, 98 VDDA, 99 PD6, 100 PD7/C0o

## LM3S2651-IBZ
designator U1
Stellaris ARM Cortex-M3 Microcontroller; MFG: Luminary Micro; Ordering: LM3S2651-IBZ; LMI Class: Fury
footprint BGA108C80P12X12_1000X1000X150 (BGA, 108-Leads, Body 10.0x10.0mm,  Pitch 0.80mm)
pins: A1 ADC1, A2 NC, A3 NC, A4 NC, A5 GNDA, A6 PB4/C0-, A7 PB6/C0+, A8 PB7/TRSTn, A9 PC0/TCK/SWCLK, A10 PC3/TDO/SWO, A11 PE0/SSI1Clk, A12 PE3/SSI1Tx, B1 ADC0, B2 ADC3, B3 ADC2, B4 NC, B5 GNDA, B6 GND, B7 PB5/CCP5, B8 PC2/TDI, B9 PC1/TMS/SWDIO, B10 CMOD1, B11 PE2/SSI1Rx, B12 PE1/SSI1Fss, C1 NC, C2 NC, C3 VDD25, C4 GND, C5 GND, C6 VDDA, C7 VDDA, C8 PH1/PWM3, C9 PH0/PWM2, C10 PG7, C11 PB2/I2C0SCL, C12 PB3/I2C0SDA, D1 NC, D2 NC, D3 VDD25, D10 NC, D11 NC, D12 PB1/CCP2, E1 PD4, E2 PD5, E3 LDO, E10 VDD33, E11 CMOD0, E12 PB0/CCP0, F1 PD7, F2 PD6/Fault, F3 VDD25, F10 GND, F11 GND, F12 GND, G1 PD0/CAN0Rx, G2 PD1/CAN0Tx, G3 VDD25, G10 VDD33, G11 VDD33, G12 VDD33, H1 PD3/U1Tx, H2 PD2/U1Rx, H3 GND, H10 VDD33, H11 RSTn, H12 PF1/PWM1, J1 PG2, J2 PG3, J3 GND, J10 GND, J11 PF2, J12 PF3, K1 PG0/U2Rx, K2 PG1/U2Tx, K3 PG4, K4 PF7, K5 GND, K6 GND, K7 VDD33, K8 VDD33, K9 VDD33, K10 GND, K11 XOSC0, K12 XOSC1, L1 PC4, L2 NC, L3 PA0/U0Rx, L4 PA3/SSI0Fss, L5 PA4/SSI0Rx, L6 PA6/CCP1, L7 PG6, L8 PF5, L9 PF4, L10 GND, L11 OSC0, L12 VBAT, M1 PC5/C0o, M2 PC6/CCP3, M3 PA1/U0Tx, M4 PA2/SSI0Clk, M5 PA5/SSI0Tx, M6 PA7/CCP4, M7 PG5, M8 PF6, M9 PF0/PWM0, M10 WAKEn, M11 OSC1, M12 HIBn

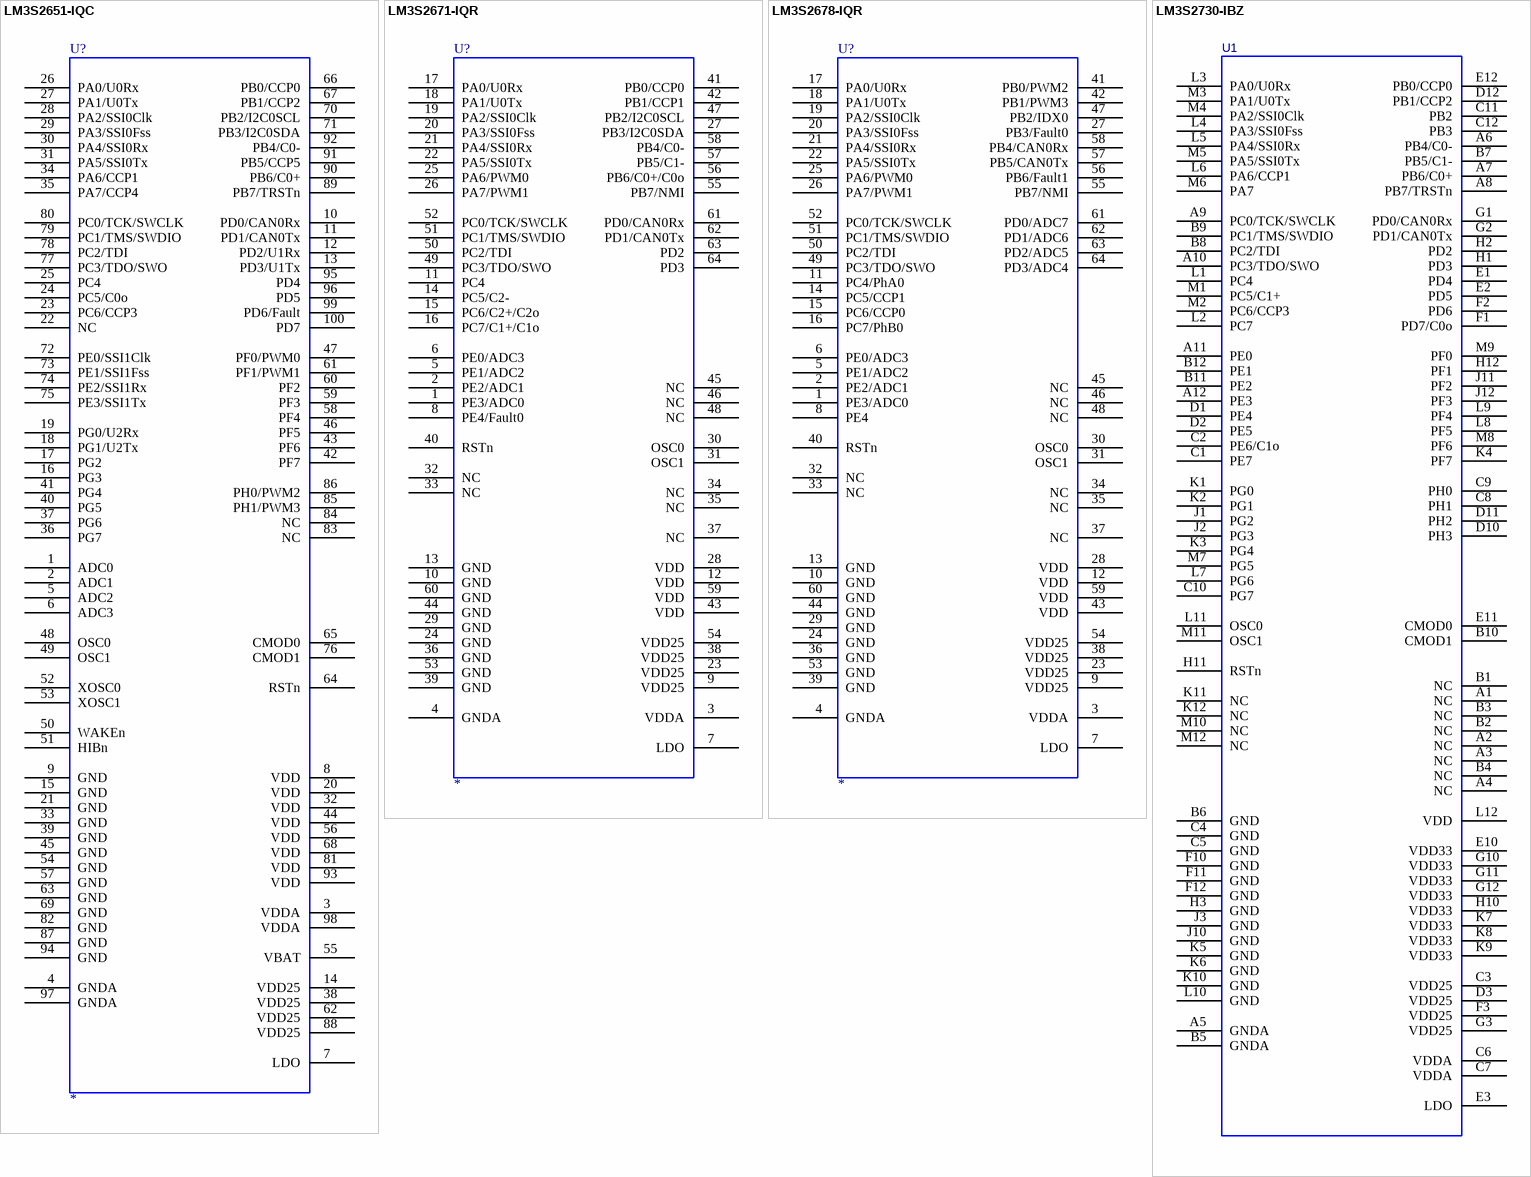
[diagram p23: symbols LM3S2651-IQC to LM3S2730-IBZ]

## LM3S2651-IQC
designator U?
Stellaris ARM Cortex-M3 Microcontroller; MFG: Luminary Micro; Ordering: LM3S2651-IQC; LMI Class: Fury
footprint QFP50P1600X1600X160-100N
pins: 1 ADC0, 2 ADC1, 3 VDDA, 4 GNDA, 5 ADC2, 6 ADC3, 7 LDO, 8 VDD, 9 GND, 10 PD0/CAN0Rx, 11 PD1/CAN0Tx, 12 PD2/U1Rx, 13 PD3/U1Tx, 14 VDD25, 15 GND, 16 PG3, 17 PG2, 18 PG1/U2Tx, 19 PG0/U2Rx, 20 VDD, 21 GND, 22 NC, 23 PC6/CCP3, 24 PC5/C0o, 25 PC4, 26 PA0/U0Rx, 27 PA1/U0Tx, 28 PA2/SSI0Clk, 29 PA3/SSI0Fss, 30 PA4/SSI0Rx, 31 PA5/SSI0Tx, 32 VDD, 33 GND, 34 PA6/CCP1, 35 PA7/CCP4, 36 PG7, 37 PG6, 38 VDD25, 39 GND, 40 PG5, 41 PG4, 42 PF7, 43 PF6, 44 VDD, 45 GND, 46 PF5, 47 PF0/PWM0, 48 OSC0, 49 OSC1, 50 WAKEn, 51 HIBn, 52 XOSC0, 53 XOSC1, 54 GND, 55 VBAT, 56 VDD, 57 GND, 58 PF4, 59 PF3, 60 PF2, 61 PF1/PWM1, 62 VDD25, 63 GND, 64 RSTn, 65 CMOD0, 66 PB0/CCP0, 67 PB1/CCP2, 68 VDD, 69 GND, 70 PB2/I2C0SCL, 71 PB3/I2C0SDA, 72 PE0/SSI1Clk, 73 PE1/SSI1Fss, 74 PE2/SSI1Rx, 75 PE3/SSI1Tx, 76 CMOD1, 77 PC3/TDO/SWO, 78 PC2/TDI, 79 PC1/TMS/SWDIO, 80 PC0/TCK/SWCLK, 81 VDD, 82 GND, 83 NC, 84 NC, 85 PH1/PWM3, 86 PH0/PWM2, 87 GND, 88 VDD25, 89 PB7/TRSTn, 90 PB6/C0+, 91 PB5/CCP5, 92 PB4/C0-, 93 VDD, 94 GND, 95 PD4, 96 PD5, 97 GNDA, 98 VDDA, 99 PD6/Fault, 100 PD7

## LM3S2671-IQR
designator U?
Stellaris ARM Cortex-M3 Microcontroller; MFG: Luminary Micro; Ordering: LM3S2671-IQR; LMI Class: Dust Devil
footprint QFP50P1200X1200X160-64N
pins: 1 PE3/ADC0, 2 PE2/ADC1, 3 VDDA, 4 GNDA, 5 PE1/ADC2, 6 PE0/ADC3, 7 LDO, 8 PE4/Fault0, 9 VDD25, 10 GND, 11 PC4, 12 VDD, 13 GND, 14 PC5/C2-, 15 PC6/C2+/C2o, 16 PC7/C1+/C1o, 17 PA0/U0Rx, 18 PA1/U0Tx, 19 PA2/SSI0Clk, 20 PA3/SSI0Fss, 21 PA4/SSI0Rx, 22 PA5/SSI0Tx, 23 VDD25, 24 GND, 25 PA6/PWM0, 26 PA7/PWM1, 27 PB3/I2C0SDA, 28 VDD, 29 GND, 30 OSC0, 31 OSC1, 32 NC, 33 NC, 34 NC, 35 NC, 36 GND, 37 NC, 38 VDD25, 39 GND, 40 RSTn, 41 PB0/CCP0, 42 PB1/CCP1, 43 VDD, 44 GND, 45 NC, 46 NC, 47 PB2/I2C0SCL, 48 NC, 49 PC3/TDO/SWO, 50 PC2/TDI, 51 PC1/TMS/SWDIO, 52 PC0/TCK/SWCLK, 53 GND, 54 VDD25, 55 PB7/NMI, 56 PB6/C0+/C0o, 57 PB5/C1-, 58 PB4/C0-, 59 VDD, 60 GND, 61 PD0/CAN0Rx, 62 PD1/CAN0Tx, 63 PD2, 64 PD3

## LM3S2678-IQR
designator U?
Stellaris ARM Cortex-M3 Microcontroller; MFG: Luminary Micro; Ordering: LM3S2678-IQR; LMI Class: Dust Devil
footprint QFP50P1200X1200X160-64N
pins: 1 PE3/ADC0, 2 PE2/ADC1, 3 VDDA, 4 GNDA, 5 PE1/ADC2, 6 PE0/ADC3, 7 LDO, 8 PE4, 9 VDD25, 10 GND, 11 PC4/PhA0, 12 VDD, 13 GND, 14 PC5/CCP1, 15 PC6/CCP0, 16 PC7/PhB0, 17 PA0/U0Rx, 18 PA1/U0Tx, 19 PA2/SSI0Clk, 20 PA3/SSI0Fss, 21 PA4/SSI0Rx, 22 PA5/SSI0Tx, 23 VDD25, 24 GND, 25 PA6/PWM0, 26 PA7/PWM1, 27 PB3/Fault0, 28 VDD, 29 GND, 30 OSC0, 31 OSC1, 32 NC, 33 NC, 34 NC, 35 NC, 36 GND, 37 NC, 38 VDD25, 39 GND, 40 RSTn, 41 PB0/PWM2, 42 PB1/PWM3, 43 VDD, 44 GND, 45 NC, 46 NC, 47 PB2/IDX0, 48 NC, 49 PC3/TDO/SWO, 50 PC2/TDI, 51 PC1/TMS/SWDIO, 52 PC0/TCK/SWCLK, 53 GND, 54 VDD25, 55 PB7/NMI, 56 PB6/Fault1, 57 PB5/CAN0Tx, 58 PB4/CAN0Rx, 59 VDD, 60 GND, 61 PD0/ADC7, 62 PD1/ADC6, 63 PD2/ADC5, 64 PD3/ADC4

## LM3S2730-IBZ
designator U1
Stellaris ARM Cortex-M3 Microcontroller; MFG: Luminary Micro; Ordering: LM3S2730-IBZ; LMI Class: Fury
footprint BGA108C80P12X12_1000X1000X150 (BGA, 108-Leads, Body 10.0x10.0mm,  Pitch 0.80mm)
pins: A1 NC, A2 NC, A3 NC, A4 NC, A5 GNDA, A6 PB4/C0-, A7 PB6/C0+, A8 PB7/TRSTn, A9 PC0/TCK/SWCLK, A10 PC3/TDO/SWO, A11 PE0, A12 PE3, B1 NC, B2 NC, B3 NC, B4 NC, B5 GNDA, B6 GND, B7 PB5/C1-, B8 PC2/TDI, B9 PC1/TMS/SWDIO, B10 CMOD1, B11 PE2, B12 PE1, C1 PE7, C2 PE6/C1o, C3 VDD25, C4 GND, C5 GND, C6 VDDA, C7 VDDA, C8 PH1, C9 PH0, C10 PG7, C11 PB2, C12 PB3, D1 PE4, D2 PE5, D3 VDD25, D10 PH3, D11 PH2, D12 PB1/CCP2, E1 PD4, E2 PD5, E3 LDO, E10 VDD33, E11 CMOD0, E12 PB0/CCP0, F1 PD7/C0o, F2 PD6, F3 VDD25, F10 GND, F11 GND, F12 GND, G1 PD0/CAN0Rx, G2 PD1/CAN0Tx, G3 VDD25, G10 VDD33, G11 VDD33, G12 VDD33, H1 PD3, H2 PD2, H3 GND, H10 VDD33, H11 RSTn, H12 PF1, J1 PG2, J2 PG3, J3 GND, J10 GND, J11 PF2, J12 PF3, K1 PG0, K2 PG1, K3 PG4, K4 PF7, K5 GND, K6 GND, K7 VDD33, K8 VDD33, K9 VDD33, K10 GND, K11 NC, K12 NC, L1 PC4, L2 PC7, L3 PA0/U0Rx, L4 PA3/SSI0Fss, L5 PA4/SSI0Rx, L6 PA6/CCP1, L7 PG6, L8 PF5, L9 PF4, L10 GND, L11 OSC0, L12 VDD, M1 PC5/C1+, M2 PC6/CCP3, M3 PA1/U0Tx, M4 PA2/SSI0Clk, M5 PA5/SSI0Tx, M6 PA7, M7 PG5, M8 PF6, M9 PF0, M10 NC, M11 OSC1, M12 NC

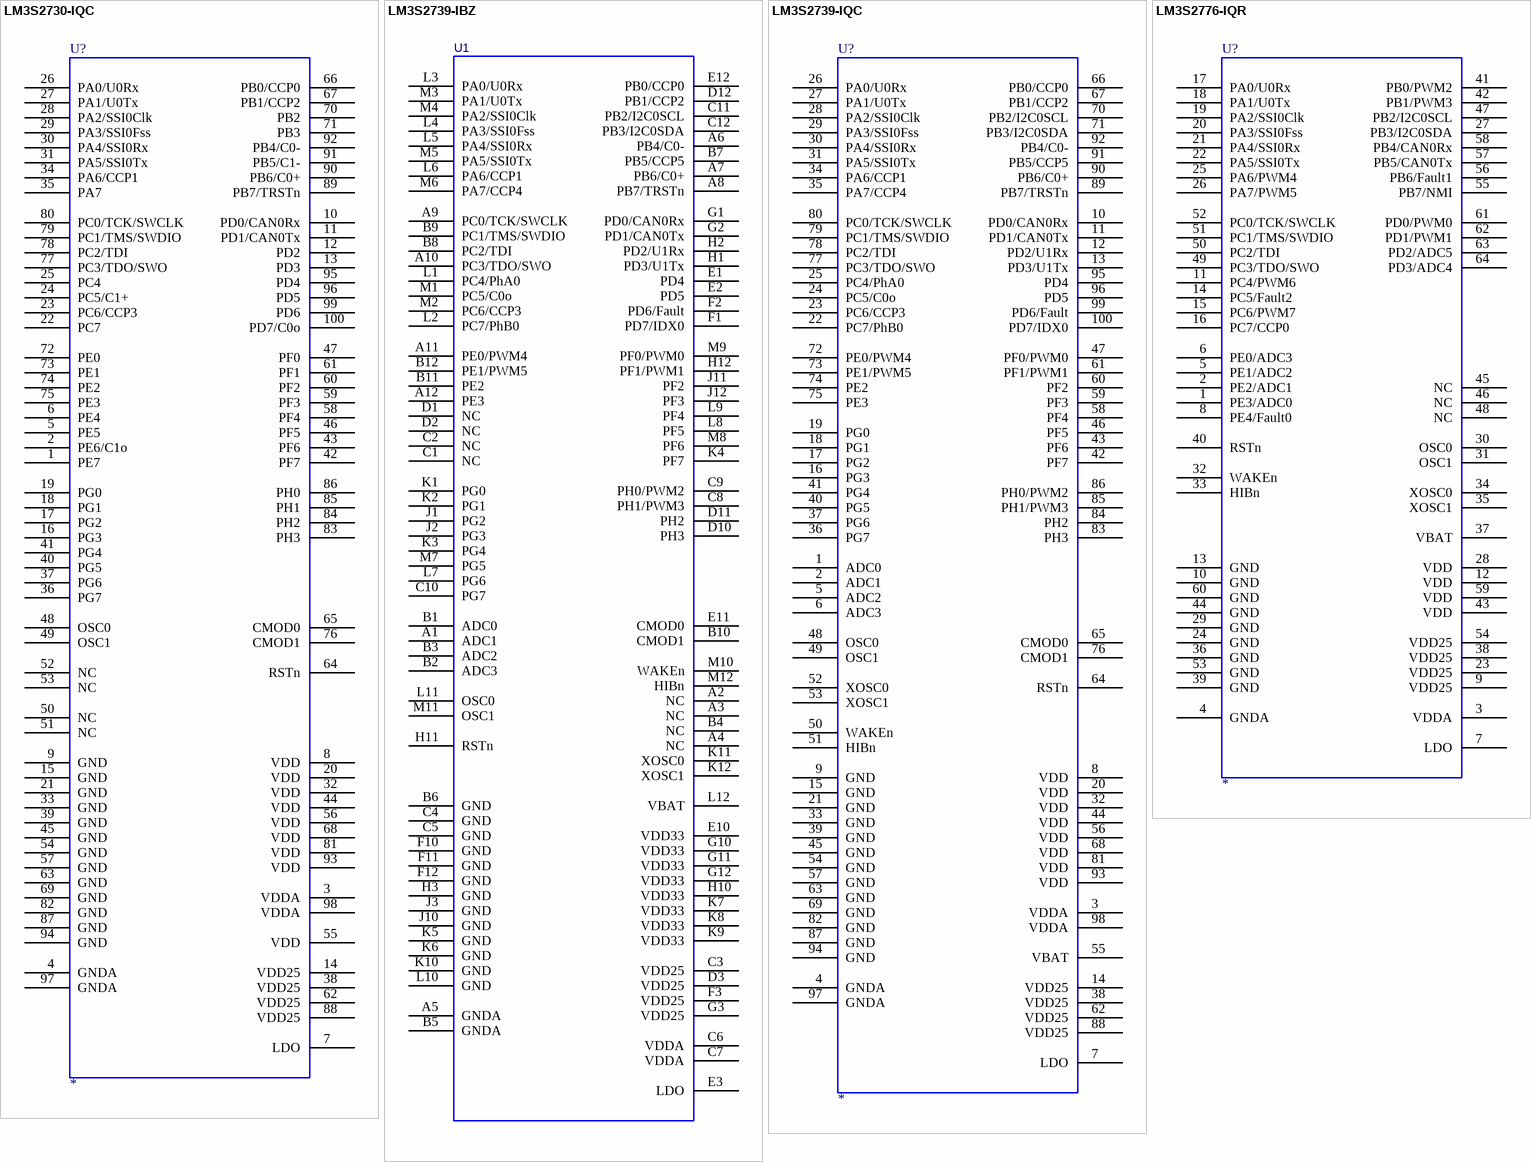
[diagram p24: symbols LM3S2730-IQC to LM3S2776-IQR]

## LM3S2730-IQC
designator U?
Stellaris ARM Cortex-M3 Microcontroller; MFG: Luminary Micro; Ordering: LM3S2730-IQC; LMI Class: Fury
footprint QFP50P1600X1600X160-100N
pins: 1 PE7, 2 PE6/C1o, 3 VDDA, 4 GNDA, 5 PE5, 6 PE4, 7 LDO, 8 VDD, 9 GND, 10 PD0/CAN0Rx, 11 PD1/CAN0Tx, 12 PD2, 13 PD3, 14 VDD25, 15 GND, 16 PG3, 17 PG2, 18 PG1, 19 PG0, 20 VDD, 21 GND, 22 PC7, 23 PC6/CCP3, 24 PC5/C1+, 25 PC4, 26 PA0/U0Rx, 27 PA1/U0Tx, 28 PA2/SSI0Clk, 29 PA3/SSI0Fss, 30 PA4/SSI0Rx, 31 PA5/SSI0Tx, 32 VDD, 33 GND, 34 PA6/CCP1, 35 PA7, 36 PG7, 37 PG6, 38 VDD25, 39 GND, 40 PG5, 41 PG4, 42 PF7, 43 PF6, 44 VDD, 45 GND, 46 PF5, 47 PF0, 48 OSC0, 49 OSC1, 50 NC, 51 NC, 52 NC, 53 NC, 54 GND, 55 VDD, 56 VDD, 57 GND, 58 PF4, 59 PF3, 60 PF2, 61 PF1, 62 VDD25, 63 GND, 64 RSTn, 65 CMOD0, 66 PB0/CCP0, 67 PB1/CCP2, 68 VDD, 69 GND, 70 PB2, 71 PB3, 72 PE0, 73 PE1, 74 PE2, 75 PE3, 76 CMOD1, 77 PC3/TDO/SWO, 78 PC2/TDI, 79 PC1/TMS/SWDIO, 80 PC0/TCK/SWCLK, 81 VDD, 82 GND, 83 PH3, 84 PH2, 85 PH1, 86 PH0, 87 GND, 88 VDD25, 89 PB7/TRSTn, 90 PB6/C0+, 91 PB5/C1-, 92 PB4/C0-, 93 VDD, 94 GND, 95 PD4, 96 PD5, 97 GNDA, 98 VDDA, 99 PD6, 100 PD7/C0o

## LM3S2739-IBZ
designator U1
Stellaris ARM Cortex-M3 Microcontroller; MFG: Luminary Micro; Ordering: LM3S2739-IBZ; LMI Class: Fury
footprint BGA108C80P12X12_1000X1000X150 (BGA, 108-Leads, Body 10.0x10.0mm,  Pitch 0.80mm)
pins: A1 ADC1, A2 NC, A3 NC, A4 NC, A5 GNDA, A6 PB4/C0-, A7 PB6/C0+, A8 PB7/TRSTn, A9 PC0/TCK/SWCLK, A10 PC3/TDO/SWO, A11 PE0/PWM4, A12 PE3, B1 ADC0, B2 ADC3, B3 ADC2, B4 NC, B5 GNDA, B6 GND, B7 PB5/CCP5, B8 PC2/TDI, B9 PC1/TMS/SWDIO, B10 CMOD1, B11 PE2, B12 PE1/PWM5, C1 NC, C2 NC, C3 VDD25, C4 GND, C5 GND, C6 VDDA, C7 VDDA, C8 PH1/PWM3, C9 PH0/PWM2, C10 PG7, C11 PB2/I2C0SCL, C12 PB3/I2C0SDA, D1 NC, D2 NC, D3 VDD25, D10 PH3, D11 PH2, D12 PB1/CCP2, E1 PD4, E2 PD5, E3 LDO, E10 VDD33, E11 CMOD0, E12 PB0/CCP0, F1 PD7/IDX0, F2 PD6/Fault, F3 VDD25, F10 GND, F11 GND, F12 GND, G1 PD0/CAN0Rx, G2 PD1/CAN0Tx, G3 VDD25, G10 VDD33, G11 VDD33, G12 VDD33, H1 PD3/U1Tx, H2 PD2/U1Rx, H3 GND, H10 VDD33, H11 RSTn, H12 PF1/PWM1, J1 PG2, J2 PG3, J3 GND, J10 GND, J11 PF2, J12 PF3, K1 PG0, K2 PG1, K3 PG4, K4 PF7, K5 GND, K6 GND, K7 VDD33, K8 VDD33, K9 VDD33, K10 GND, K11 XOSC0, K12 XOSC1, L1 PC4/PhA0, L2 PC7/PhB0, L3 PA0/U0Rx, L4 PA3/SSI0Fss, L5 PA4/SSI0Rx, L6 PA6/CCP1, L7 PG6, L8 PF5, L9 PF4, L10 GND, L11 OSC0, L12 VBAT, M1 PC5/C0o, M2 PC6/CCP3, M3 PA1/U0Tx, M4 PA2/SSI0Clk, M5 PA5/SSI0Tx, M6 PA7/CCP4, M7 PG5, M8 PF6, M9 PF0/PWM0, M10 WAKEn, M11 OSC1, M12 HIBn

## LM3S2739-IQC
designator U?
Stellaris ARM Cortex-M3 Microcontroller; MFG: Luminary Micro; Ordering: LM3S2739-IQC; LMI Class: Fury
footprint QFP50P1600X1600X160-100N
pins: 1 ADC0, 2 ADC1, 3 VDDA, 4 GNDA, 5 ADC2, 6 ADC3, 7 LDO, 8 VDD, 9 GND, 10 PD0/CAN0Rx, 11 PD1/CAN0Tx, 12 PD2/U1Rx, 13 PD3/U1Tx, 14 VDD25, 15 GND, 16 PG3, 17 PG2, 18 PG1, 19 PG0, 20 VDD, 21 GND, 22 PC7/PhB0, 23 PC6/CCP3, 24 PC5/C0o, 25 PC4/PhA0, 26 PA0/U0Rx, 27 PA1/U0Tx, 28 PA2/SSI0Clk, 29 PA3/SSI0Fss, 30 PA4/SSI0Rx, 31 PA5/SSI0Tx, 32 VDD, 33 GND, 34 PA6/CCP1, 35 PA7/CCP4, 36 PG7, 37 PG6, 38 VDD25, 39 GND, 40 PG5, 41 PG4, 42 PF7, 43 PF6, 44 VDD, 45 GND, 46 PF5, 47 PF0/PWM0, 48 OSC0, 49 OSC1, 50 WAKEn, 51 HIBn, 52 XOSC0, 53 XOSC1, 54 GND, 55 VBAT, 56 VDD, 57 GND, 58 PF4, 59 PF3, 60 PF2, 61 PF1/PWM1, 62 VDD25, 63 GND, 64 RSTn, 65 CMOD0, 66 PB0/CCP0, 67 PB1/CCP2, 68 VDD, 69 GND, 70 PB2/I2C0SCL, 71 PB3/I2C0SDA, 72 PE0/PWM4, 73 PE1/PWM5, 74 PE2, 75 PE3, 76 CMOD1, 77 PC3/TDO/SWO, 78 PC2/TDI, 79 PC1/TMS/SWDIO, 80 PC0/TCK/SWCLK, 81 VDD, 82 GND, 83 PH3, 84 PH2, 85 PH1/PWM3, 86 PH0/PWM2, 87 GND, 88 VDD25, 89 PB7/TRSTn, 90 PB6/C0+, 91 PB5/CCP5, 92 PB4/C0-, 93 VDD, 94 GND, 95 PD4, 96 PD5, 97 GNDA, 98 VDDA, 99 PD6/Fault, 100 PD7/IDX0

## LM3S2776-IQR
designator U?
Stellaris ARM Cortex-M3 Microcontroller; MFG: Luminary Micro; Ordering: LM3S2776-IQR; LMI Class: Dust Devil
footprint QFP50P1200X1200X160-64N
pins: 1 PE3/ADC0, 2 PE2/ADC1, 3 VDDA, 4 GNDA, 5 PE1/ADC2, 6 PE0/ADC3, 7 LDO, 8 PE4/Fault0, 9 VDD25, 10 GND, 11 PC4/PWM6, 12 VDD, 13 GND, 14 PC5/Fault2, 15 PC6/PWM7, 16 PC7/CCP0, 17 PA0/U0Rx, 18 PA1/U0Tx, 19 PA2/SSI0Clk, 20 PA3/SSI0Fss, 21 PA4/SSI0Rx, 22 PA5/SSI0Tx, 23 VDD25, 24 GND, 25 PA6/PWM4, 26 PA7/PWM5, 27 PB3/I2C0SDA, 28 VDD, 29 GND, 30 OSC0, 31 OSC1, 32 WAKEn, 33 HIBn, 34 XOSC0, 35 XOSC1, 36 GND, 37 VBAT, 38 VDD25, 39 GND, 40 RSTn, 41 PB0/PWM2, 42 PB1/PWM3, 43 VDD, 44 GND, 45 NC, 46 NC, 47 PB2/I2C0SCL, 48 NC, 49 PC3/TDO/SWO, 50 PC2/TDI, 51 PC1/TMS/SWDIO, 52 PC0/TCK/SWCLK, 53 GND, 54 VDD25, 55 PB7/NMI, 56 PB6/Fault1, 57 PB5/CAN0Tx, 58 PB4/CAN0Rx, 59 VDD, 60 GND, 61 PD0/PWM0, 62 PD1/PWM1, 63 PD2/ADC5, 64 PD3/ADC4

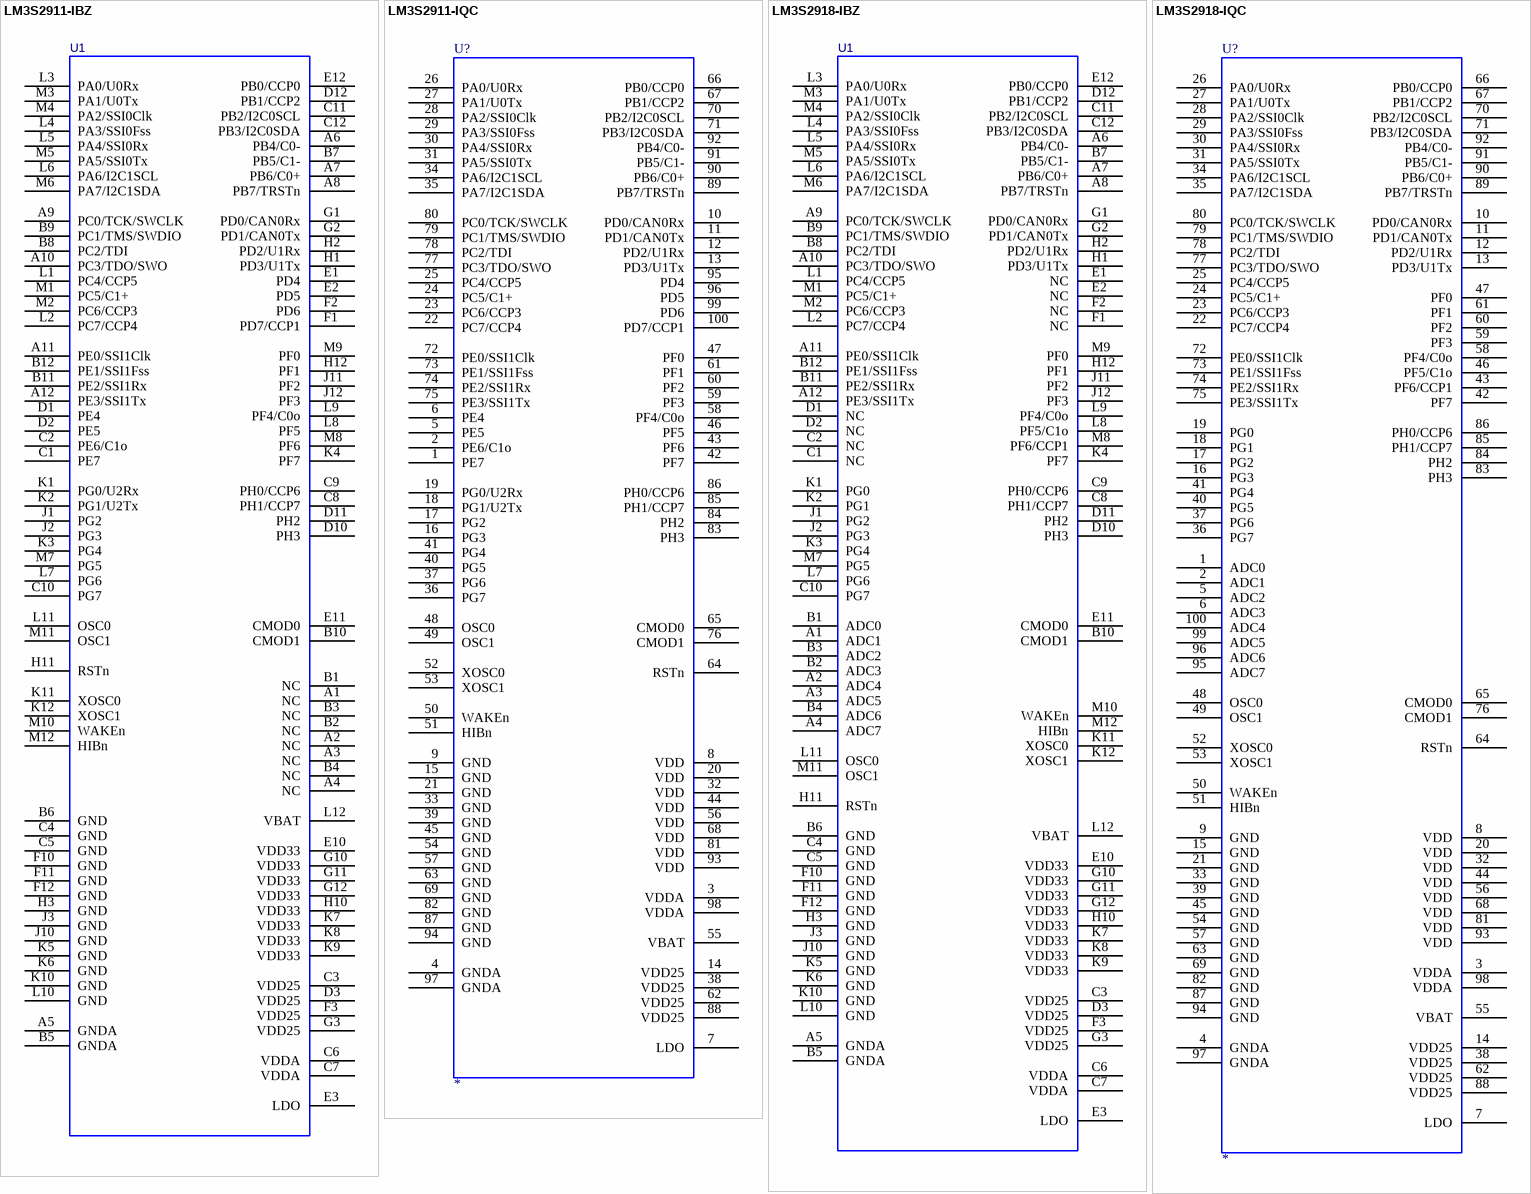
[diagram p25: symbols LM3S2911-IBZ to LM3S2918-IQC]

## LM3S2911-IBZ
designator U1
Stellaris ARM Cortex-M3 Microcontroller; MFG: Luminary Micro; Ordering: LM3S2911-IBZ; LMI Class: Fury
footprint BGA108C80P12X12_1000X1000X150 (BGA, 108-Leads, Body 10.0x10.0mm,  Pitch 0.80mm)
pins: A1 NC, A2 NC, A3 NC, A4 NC, A5 GNDA, A6 PB4/C0-, A7 PB6/C0+, A8 PB7/TRSTn, A9 PC0/TCK/SWCLK, A10 PC3/TDO/SWO, A11 PE0/SSI1Clk, A12 PE3/SSI1Tx, B1 NC, B2 NC, B3 NC, B4 NC, B5 GNDA, B6 GND, B7 PB5/C1-, B8 PC2/TDI, B9 PC1/TMS/SWDIO, B10 CMOD1, B11 PE2/SSI1Rx, B12 PE1/SSI1Fss, C1 PE7, C2 PE6/C1o, C3 VDD25, C4 GND, C5 GND, C6 VDDA, C7 VDDA, C8 PH1/CCP7, C9 PH0/CCP6, C10 PG7, C11 PB2/I2C0SCL, C12 PB3/I2C0SDA, D1 PE4, D2 PE5, D3 VDD25, D10 PH3, D11 PH2, D12 PB1/CCP2, E1 PD4, E2 PD5, E3 LDO, E10 VDD33, E11 CMOD0, E12 PB0/CCP0, F1 PD7/CCP1, F2 PD6, F3 VDD25, F10 GND, F11 GND, F12 GND, G1 PD0/CAN0Rx, G2 PD1/CAN0Tx, G3 VDD25, G10 VDD33, G11 VDD33, G12 VDD33, H1 PD3/U1Tx, H2 PD2/U1Rx, H3 GND, H10 VDD33, H11 RSTn, H12 PF1, J1 PG2, J2 PG3, J3 GND, J10 GND, J11 PF2, J12 PF3, K1 PG0/U2Rx, K2 PG1/U2Tx, K3 PG4, K4 PF7, K5 GND, K6 GND, K7 VDD33, K8 VDD33, K9 VDD33, K10 GND, K11 XOSC0, K12 XOSC1, L1 PC4/CCP5, L2 PC7/CCP4, L3 PA0/U0Rx, L4 PA3/SSI0Fss, L5 PA4/SSI0Rx, L6 PA6/I2C1SCL, L7 PG6, L8 PF5, L9 PF4/C0o, L10 GND, L11 OSC0, L12 VBAT, M1 PC5/C1+, M2 PC6/CCP3, M3 PA1/U0Tx, M4 PA2/SSI0Clk, M5 PA5/SSI0Tx, M6 PA7/I2C1SDA, M7 PG5, M8 PF6, M9 PF0, M10 WAKEn, M11 OSC1, M12 HIBn

## LM3S2911-IQC
designator U?
Stellaris ARM Cortex-M3 Microcontroller; MFG: Luminary Micro; Ordering: LM3S2911-IQC; LMI Class: Fury
footprint QFP50P1600X1600X160-100N
pins: 1 PE7, 2 PE6/C1o, 3 VDDA, 4 GNDA, 5 PE5, 6 PE4, 7 LDO, 8 VDD, 9 GND, 10 PD0/CAN0Rx, 11 PD1/CAN0Tx, 12 PD2/U1Rx, 13 PD3/U1Tx, 14 VDD25, 15 GND, 16 PG3, 17 PG2, 18 PG1/U2Tx, 19 PG0/U2Rx, 20 VDD, 21 GND, 22 PC7/CCP4, 23 PC6/CCP3, 24 PC5/C1+, 25 PC4/CCP5, 26 PA0/U0Rx, 27 PA1/U0Tx, 28 PA2/SSI0Clk, 29 PA3/SSI0Fss, 30 PA4/SSI0Rx, 31 PA5/SSI0Tx, 32 VDD, 33 GND, 34 PA6/I2C1SCL, 35 PA7/I2C1SDA, 36 PG7, 37 PG6, 38 VDD25, 39 GND, 40 PG5, 41 PG4, 42 PF7, 43 PF6, 44 VDD, 45 GND, 46 PF5, 47 PF0, 48 OSC0, 49 OSC1, 50 WAKEn, 51 HIBn, 52 XOSC0, 53 XOSC1, 54 GND, 55 VBAT, 56 VDD, 57 GND, 58 PF4/C0o, 59 PF3, 60 PF2, 61 PF1, 62 VDD25, 63 GND, 64 RSTn, 65 CMOD0, 66 PB0/CCP0, 67 PB1/CCP2, 68 VDD, 69 GND, 70 PB2/I2C0SCL, 71 PB3/I2C0SDA, 72 PE0/SSI1Clk, 73 PE1/SSI1Fss, 74 PE2/SSI1Rx, 75 PE3/SSI1Tx, 76 CMOD1, 77 PC3/TDO/SWO, 78 PC2/TDI, 79 PC1/TMS/SWDIO, 80 PC0/TCK/SWCLK, 81 VDD, 82 GND, 83 PH3, 84 PH2, 85 PH1/CCP7, 86 PH0/CCP6, 87 GND, 88 VDD25, 89 PB7/TRSTn, 90 PB6/C0+, 91 PB5/C1-, 92 PB4/C0-, 93 VDD, 94 GND, 95 PD4, 96 PD5, 97 GNDA, 98 VDDA, 99 PD6, 100 PD7/CCP1

## LM3S2918-IBZ
designator U1
Stellaris ARM Cortex-M3 Microcontroller; MFG: Luminary Micro; Ordering: LM3S2918-IBZ; LMI Class: Fury
footprint BGA108C80P12X12_1000X1000X150 (BGA, 108-Leads, Body 10.0x10.0mm,  Pitch 0.80mm)
pins: A1 ADC1, A2 ADC4, A3 ADC5, A4 ADC7, A5 GNDA, A6 PB4/C0-, A7 PB6/C0+, A8 PB7/TRSTn, A9 PC0/TCK/SWCLK, A10 PC3/TDO/SWO, A11 PE0/SSI1Clk, A12 PE3/SSI1Tx, B1 ADC0, B2 ADC3, B3 ADC2, B4 ADC6, B5 GNDA, B6 GND, B7 PB5/C1-, B8 PC2/TDI, B9 PC1/TMS/SWDIO, B10 CMOD1, B11 PE2/SSI1Rx, B12 PE1/SSI1Fss, C1 NC, C2 NC, C3 VDD25, C4 GND, C5 GND, C6 VDDA, C7 VDDA, C8 PH1/CCP7, C9 PH0/CCP6, C10 PG7, C11 PB2/I2C0SCL, C12 PB3/I2C0SDA, D1 NC, D2 NC, D3 VDD25, D10 PH3, D11 PH2, D12 PB1/CCP2, E1 NC, E2 NC, E3 LDO, E10 VDD33, E11 CMOD0, E12 PB0/CCP0, F1 NC, F2 NC, F3 VDD25, F10 GND, F11 GND, F12 GND, G1 PD0/CAN0Rx, G2 PD1/CAN0Tx, G3 VDD25, G10 VDD33, G11 VDD33, G12 VDD33, H1 PD3/U1Tx, H2 PD2/U1Rx, H3 GND, H10 VDD33, H11 RSTn, H12 PF1, J1 PG2, J2 PG3, J3 GND, J10 GND, J11 PF2, J12 PF3, K1 PG0, K2 PG1, K3 PG4, K4 PF7, K5 GND, K6 GND, K7 VDD33, K8 VDD33, K9 VDD33, K10 GND, K11 XOSC0, K12 XOSC1, L1 PC4/CCP5, L2 PC7/CCP4, L3 PA0/U0Rx, L4 PA3/SSI0Fss, L5 PA4/SSI0Rx, L6 PA6/I2C1SCL, L7 PG6, L8 PF5/C1o, L9 PF4/C0o, L10 GND, L11 OSC0, L12 VBAT, M1 PC5/C1+, M2 PC6/CCP3, M3 PA1/U0Tx, M4 PA2/SSI0Clk, M5 PA5/SSI0Tx, M6 PA7/I2C1SDA, M7 PG5, M8 PF6/CCP1, M9 PF0, M10 WAKEn, M11 OSC1, M12 HIBn

## LM3S2918-IQC
designator U?
Stellaris ARM Cortex-M3 Microcontroller; MFG: Luminary Micro; Ordering: LM3S2918-IQC; LMI Class: Fury
footprint QFP50P1600X1600X160-100N
pins: 1 ADC0, 2 ADC1, 3 VDDA, 4 GNDA, 5 ADC2, 6 ADC3, 7 LDO, 8 VDD, 9 GND, 10 PD0/CAN0Rx, 11 PD1/CAN0Tx, 12 PD2/U1Rx, 13 PD3/U1Tx, 14 VDD25, 15 GND, 16 PG3, 17 PG2, 18 PG1, 19 PG0, 20 VDD, 21 GND, 22 PC7/CCP4, 23 PC6/CCP3, 24 PC5/C1+, 25 PC4/CCP5, 26 PA0/U0Rx, 27 PA1/U0Tx, 28 PA2/SSI0Clk, 29 PA3/SSI0Fss, 30 PA4/SSI0Rx, 31 PA5/SSI0Tx, 32 VDD, 33 GND, 34 PA6/I2C1SCL, 35 PA7/I2C1SDA, 36 PG7, 37 PG6, 38 VDD25, 39 GND, 40 PG5, 41 PG4, 42 PF7, 43 PF6/CCP1, 44 VDD, 45 GND, 46 PF5/C1o, 47 PF0, 48 OSC0, 49 OSC1, 50 WAKEn, 51 HIBn, 52 XOSC0, 53 XOSC1, 54 GND, 55 VBAT, 56 VDD, 57 GND, 58 PF4/C0o, 59 PF3, 60 PF2, 61 PF1, 62 VDD25, 63 GND, 64 RSTn, 65 CMOD0, 66 PB0/CCP0, 67 PB1/CCP2, 68 VDD, 69 GND, 70 PB2/I2C0SCL, 71 PB3/I2C0SDA, 72 PE0/SSI1Clk, 73 PE1/SSI1Fss, 74 PE2/SSI1Rx, 75 PE3/SSI1Tx, 76 CMOD1, 77 PC3/TDO/SWO, 78 PC2/TDI, 79 PC1/TMS/SWDIO, 80 PC0/TCK/SWCLK, 81 VDD, 82 GND, 83 PH3, 84 PH2, 85 PH1/CCP7, 86 PH0/CCP6, 87 GND, 88 VDD25, 89 PB7/TRSTn, 90 PB6/C0+, 91 PB5/C1-, 92 PB4/C0-, 93 VDD, 94 GND, 95 ADC7, 96 ADC6, 97 GNDA, 98 VDDA, 99 ADC5, 100 ADC4

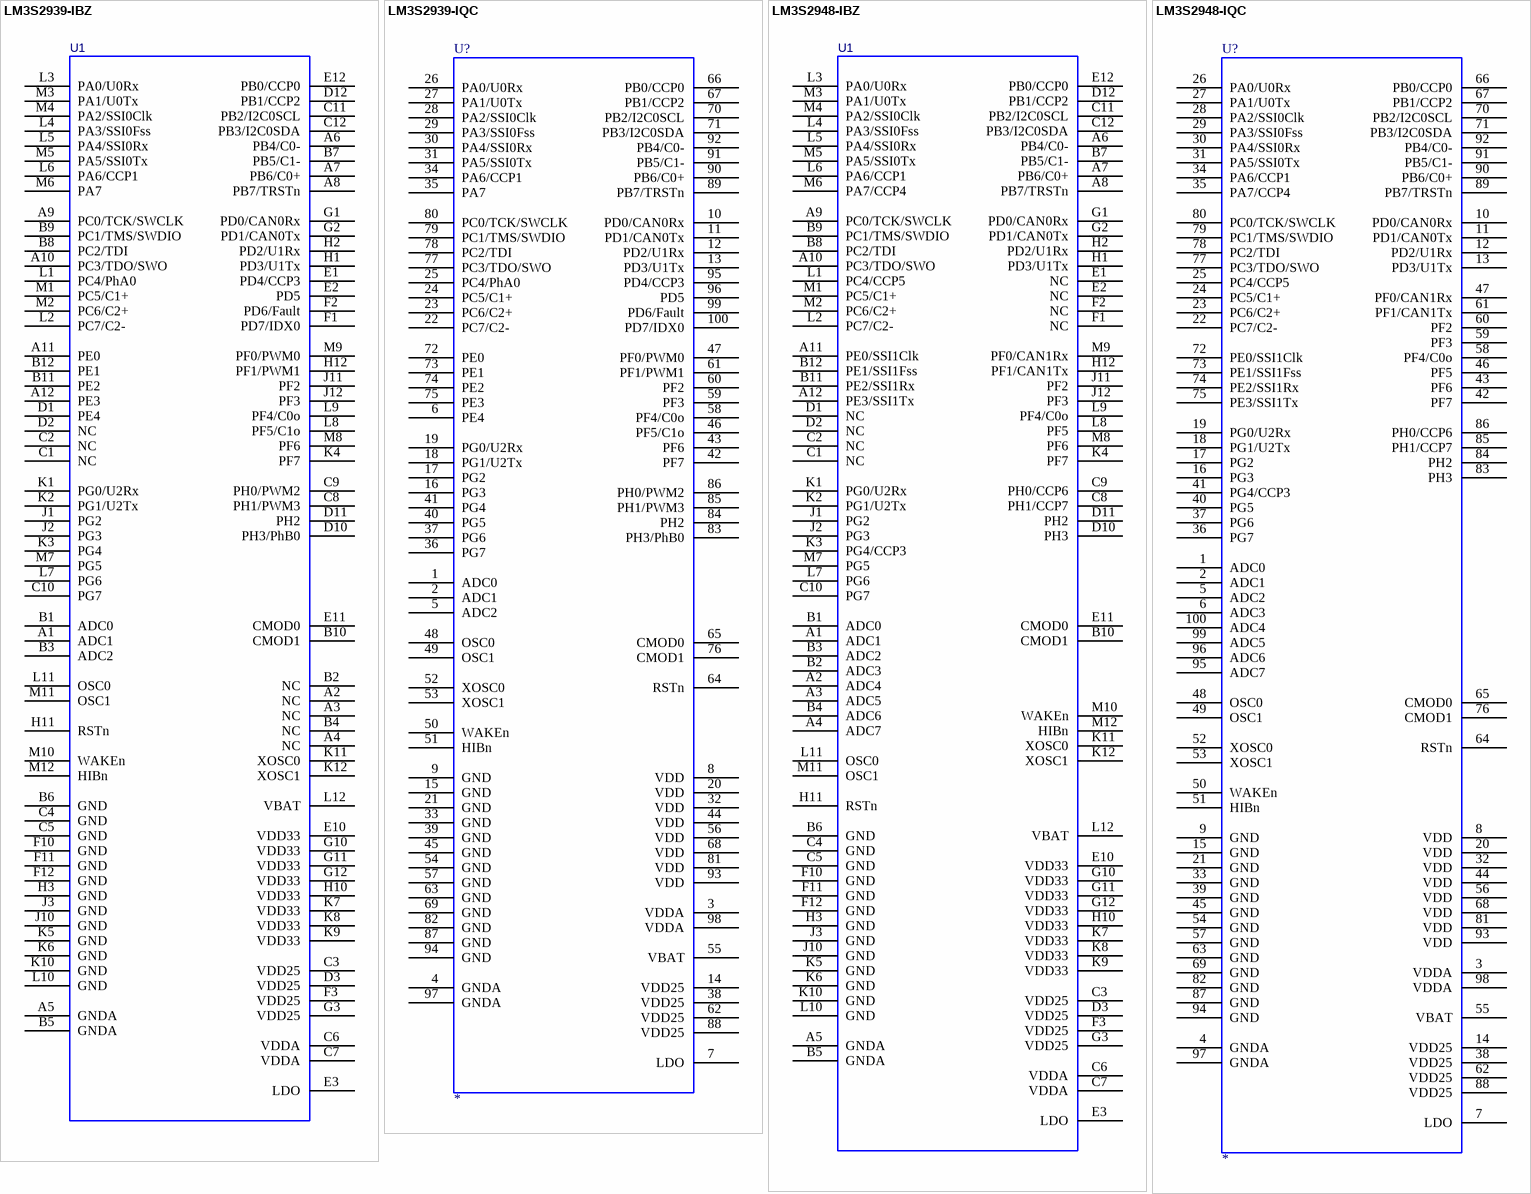
[diagram p26: symbols LM3S2939-IBZ to LM3S2948-IQC]

## LM3S2939-IBZ
designator U1
Stellaris ARM Cortex-M3 Microcontroller; MFG: Luminary Micro; Ordering: LM3S2939-IBZ; LMI Class: Fury
footprint BGA108C80P12X12_1000X1000X150 (BGA, 108-Leads, Body 10.0x10.0mm,  Pitch 0.80mm)
pins: A1 ADC1, A2 NC, A3 NC, A4 NC, A5 GNDA, A6 PB4/C0-, A7 PB6/C0+, A8 PB7/TRSTn, A9 PC0/TCK/SWCLK, A10 PC3/TDO/SWO, A11 PE0, A12 PE3, B1 ADC0, B2 NC, B3 ADC2, B4 NC, B5 GNDA, B6 GND, B7 PB5/C1-, B8 PC2/TDI, B9 PC1/TMS/SWDIO, B10 CMOD1, B11 PE2, B12 PE1, C1 NC, C2 NC, C3 VDD25, C4 GND, C5 GND, C6 VDDA, C7 VDDA, C8 PH1/PWM3, C9 PH0/PWM2, C10 PG7, C11 PB2/I2C0SCL, C12 PB3/I2C0SDA, D1 PE4, D2 NC, D3 VDD25, D10 PH3/PhB0, D11 PH2, D12 PB1/CCP2, E1 PD4/CCP3, E2 PD5, E3 LDO, E10 VDD33, E11 CMOD0, E12 PB0/CCP0, F1 PD7/IDX0, F2 PD6/Fault, F3 VDD25, F10 GND, F11 GND, F12 GND, G1 PD0/CAN0Rx, G2 PD1/CAN0Tx, G3 VDD25, G10 VDD33, G11 VDD33, G12 VDD33, H1 PD3/U1Tx, H2 PD2/U1Rx, H3 GND, H10 VDD33, H11 RSTn, H12 PF1/PWM1, J1 PG2, J2 PG3, J3 GND, J10 GND, J11 PF2, J12 PF3, K1 PG0/U2Rx, K2 PG1/U2Tx, K3 PG4, K4 PF7, K5 GND, K6 GND, K7 VDD33, K8 VDD33, K9 VDD33, K10 GND, K11 XOSC0, K12 XOSC1, L1 PC4/PhA0, L2 PC7/C2-, L3 PA0/U0Rx, L4 PA3/SSI0Fss, L5 PA4/SSI0Rx, L6 PA6/CCP1, L7 PG6, L8 PF5/C1o, L9 PF4/C0o, L10 GND, L11 OSC0, L12 VBAT, M1 PC5/C1+, M2 PC6/C2+, M3 PA1/U0Tx, M4 PA2/SSI0Clk, M5 PA5/SSI0Tx, M6 PA7, M7 PG5, M8 PF6, M9 PF0/PWM0, M10 WAKEn, M11 OSC1, M12 HIBn

## LM3S2939-IQC
designator U?
Stellaris ARM Cortex-M3 Microcontroller; MFG: Luminary Micro; Ordering: LM3S2939-IQC; LMI Class: Fury
footprint QFP50P1600X1600X160-100N
pins: 1 ADC0, 2 ADC1, 3 VDDA, 4 GNDA, 5 ADC2, 6 PE4, 7 LDO, 8 VDD, 9 GND, 10 PD0/CAN0Rx, 11 PD1/CAN0Tx, 12 PD2/U1Rx, 13 PD3/U1Tx, 14 VDD25, 15 GND, 16 PG3, 17 PG2, 18 PG1/U2Tx, 19 PG0/U2Rx, 20 VDD, 21 GND, 22 PC7/C2-, 23 PC6/C2+, 24 PC5/C1+, 25 PC4/PhA0, 26 PA0/U0Rx, 27 PA1/U0Tx, 28 PA2/SSI0Clk, 29 PA3/SSI0Fss, 30 PA4/SSI0Rx, 31 PA5/SSI0Tx, 32 VDD, 33 GND, 34 PA6/CCP1, 35 PA7, 36 PG7, 37 PG6, 38 VDD25, 39 GND, 40 PG5, 41 PG4, 42 PF7, 43 PF6, 44 VDD, 45 GND, 46 PF5/C1o, 47 PF0/PWM0, 48 OSC0, 49 OSC1, 50 WAKEn, 51 HIBn, 52 XOSC0, 53 XOSC1, 54 GND, 55 VBAT, 56 VDD, 57 GND, 58 PF4/C0o, 59 PF3, 60 PF2, 61 PF1/PWM1, 62 VDD25, 63 GND, 64 RSTn, 65 CMOD0, 66 PB0/CCP0, 67 PB1/CCP2, 68 VDD, 69 GND, 70 PB2/I2C0SCL, 71 PB3/I2C0SDA, 72 PE0, 73 PE1, 74 PE2, 75 PE3, 76 CMOD1, 77 PC3/TDO/SWO, 78 PC2/TDI, 79 PC1/TMS/SWDIO, 80 PC0/TCK/SWCLK, 81 VDD, 82 GND, 83 PH3/PhB0, 84 PH2, 85 PH1/PWM3, 86 PH0/PWM2, 87 GND, 88 VDD25, 89 PB7/TRSTn, 90 PB6/C0+, 91 PB5/C1-, 92 PB4/C0-, 93 VDD, 94 GND, 95 PD4/CCP3, 96 PD5, 97 GNDA, 98 VDDA, 99 PD6/Fault, 100 PD7/IDX0

## LM3S2948-IBZ
designator U1
Stellaris ARM Cortex-M3 Microcontroller; MFG: Luminary Micro; Ordering: LM3S2948-IBZ; LMI Class: Fury
footprint BGA108C80P12X12_1000X1000X150 (BGA, 108-Leads, Body 10.0x10.0mm,  Pitch 0.80mm)
pins: A1 ADC1, A2 ADC4, A3 ADC5, A4 ADC7, A5 GNDA, A6 PB4/C0-, A7 PB6/C0+, A8 PB7/TRSTn, A9 PC0/TCK/SWCLK, A10 PC3/TDO/SWO, A11 PE0/SSI1Clk, A12 PE3/SSI1Tx, B1 ADC0, B2 ADC3, B3 ADC2, B4 ADC6, B5 GNDA, B6 GND, B7 PB5/C1-, B8 PC2/TDI, B9 PC1/TMS/SWDIO, B10 CMOD1, B11 PE2/SSI1Rx, B12 PE1/SSI1Fss, C1 NC, C2 NC, C3 VDD25, C4 GND, C5 GND, C6 VDDA, C7 VDDA, C8 PH1/CCP7, C9 PH0/CCP6, C10 PG7, C11 PB2/I2C0SCL, C12 PB3/I2C0SDA, D1 NC, D2 NC, D3 VDD25, D10 PH3, D11 PH2, D12 PB1/CCP2, E1 NC, E2 NC, E3 LDO, E10 VDD33, E11 CMOD0, E12 PB0/CCP0, F1 NC, F2 NC, F3 VDD25, F10 GND, F11 GND, F12 GND, G1 PD0/CAN0Rx, G2 PD1/CAN0Tx, G3 VDD25, G10 VDD33, G11 VDD33, G12 VDD33, H1 PD3/U1Tx, H2 PD2/U1Rx, H3 GND, H10 VDD33, H11 RSTn, H12 PF1/CAN1Tx, J1 PG2, J2 PG3, J3 GND, J10 GND, J11 PF2, J12 PF3, K1 PG0/U2Rx, K2 PG1/U2Tx, K3 PG4/CCP3, K4 PF7, K5 GND, K6 GND, K7 VDD33, K8 VDD33, K9 VDD33, K10 GND, K11 XOSC0, K12 XOSC1, L1 PC4/CCP5, L2 PC7/C2-, L3 PA0/U0Rx, L4 PA3/SSI0Fss, L5 PA4/SSI0Rx, L6 PA6/CCP1, L7 PG6, L8 PF5, L9 PF4/C0o, L10 GND, L11 OSC0, L12 VBAT, M1 PC5/C1+, M2 PC6/C2+, M3 PA1/U0Tx, M4 PA2/SSI0Clk, M5 PA5/SSI0Tx, M6 PA7/CCP4, M7 PG5, M8 PF6, M9 PF0/CAN1Rx, M10 WAKEn, M11 OSC1, M12 HIBn

## LM3S2948-IQC
designator U?
Stellaris ARM Cortex-M3 Microcontroller; MFG: Luminary Micro; Ordering: LM3S2948-IQC; LMI Class: Fury
footprint QFP50P1600X1600X160-100N
pins: 1 ADC0, 2 ADC1, 3 VDDA, 4 GNDA, 5 ADC2, 6 ADC3, 7 LDO, 8 VDD, 9 GND, 10 PD0/CAN0Rx, 11 PD1/CAN0Tx, 12 PD2/U1Rx, 13 PD3/U1Tx, 14 VDD25, 15 GND, 16 PG3, 17 PG2, 18 PG1/U2Tx, 19 PG0/U2Rx, 20 VDD, 21 GND, 22 PC7/C2-, 23 PC6/C2+, 24 PC5/C1+, 25 PC4/CCP5, 26 PA0/U0Rx, 27 PA1/U0Tx, 28 PA2/SSI0Clk, 29 PA3/SSI0Fss, 30 PA4/SSI0Rx, 31 PA5/SSI0Tx, 32 VDD, 33 GND, 34 PA6/CCP1, 35 PA7/CCP4, 36 PG7, 37 PG6, 38 VDD25, 39 GND, 40 PG5, 41 PG4/CCP3, 42 PF7, 43 PF6, 44 VDD, 45 GND, 46 PF5, 47 PF0/CAN1Rx, 48 OSC0, 49 OSC1, 50 WAKEn, 51 HIBn, 52 XOSC0, 53 XOSC1, 54 GND, 55 VBAT, 56 VDD, 57 GND, 58 PF4/C0o, 59 PF3, 60 PF2, 61 PF1/CAN1Tx, 62 VDD25, 63 GND, 64 RSTn, 65 CMOD0, 66 PB0/CCP0, 67 PB1/CCP2, 68 VDD, 69 GND, 70 PB2/I2C0SCL, 71 PB3/I2C0SDA, 72 PE0/SSI1Clk, 73 PE1/SSI1Fss, 74 PE2/SSI1Rx, 75 PE3/SSI1Tx, 76 CMOD1, 77 PC3/TDO/SWO, 78 PC2/TDI, 79 PC1/TMS/SWDIO, 80 PC0/TCK/SWCLK, 81 VDD, 82 GND, 83 PH3, 84 PH2, 85 PH1/CCP7, 86 PH0/CCP6, 87 GND, 88 VDD25, 89 PB7/TRSTn, 90 PB6/C0+, 91 PB5/C1-, 92 PB4/C0-, 93 VDD, 94 GND, 95 ADC7, 96 ADC6, 97 GNDA, 98 VDDA, 99 ADC5, 100 ADC4

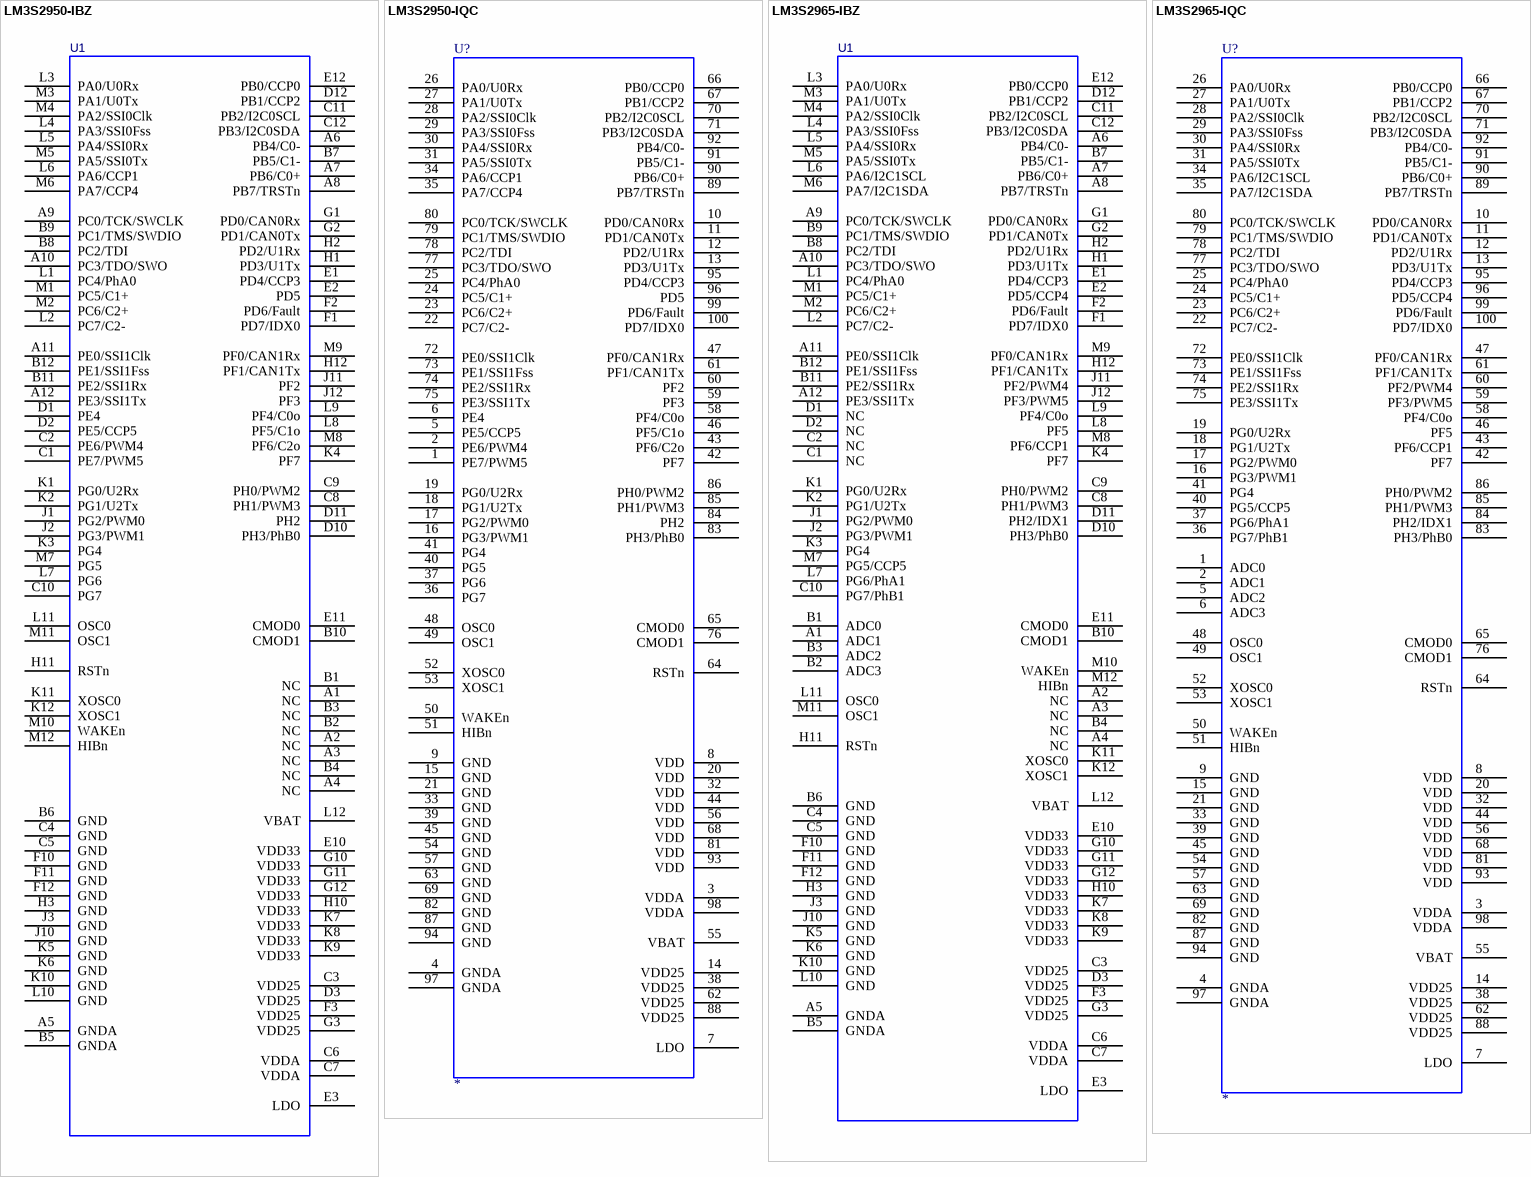
[diagram p27: symbols LM3S2950-IBZ to LM3S2965-IQC]

## LM3S2950-IBZ
designator U1
Stellaris ARM Cortex-M3 Microcontroller; MFG: Luminary Micro; Ordering: LM3S2950-IBZ; LMI Class: Fury
footprint BGA108C80P12X12_1000X1000X150 (BGA, 108-Leads, Body 10.0x10.0mm,  Pitch 0.80mm)
pins: A1 NC, A2 NC, A3 NC, A4 NC, A5 GNDA, A6 PB4/C0-, A7 PB6/C0+, A8 PB7/TRSTn, A9 PC0/TCK/SWCLK, A10 PC3/TDO/SWO, A11 PE0/SSI1Clk, A12 PE3/SSI1Tx, B1 NC, B2 NC, B3 NC, B4 NC, B5 GNDA, B6 GND, B7 PB5/C1-, B8 PC2/TDI, B9 PC1/TMS/SWDIO, B10 CMOD1, B11 PE2/SSI1Rx, B12 PE1/SSI1Fss, C1 PE7/PWM5, C2 PE6/PWM4, C3 VDD25, C4 GND, C5 GND, C6 VDDA, C7 VDDA, C8 PH1/PWM3, C9 PH0/PWM2, C10 PG7, C11 PB2/I2C0SCL, C12 PB3/I2C0SDA, D1 PE4, D2 PE5/CCP5, D3 VDD25, D10 PH3/PhB0, D11 PH2, D12 PB1/CCP2, E1 PD4/CCP3, E2 PD5, E3 LDO, E10 VDD33, E11 CMOD0, E12 PB0/CCP0, F1 PD7/IDX0, F2 PD6/Fault, F3 VDD25, F10 GND, F11 GND, F12 GND, G1 PD0/CAN0Rx, G2 PD1/CAN0Tx, G3 VDD25, G10 VDD33, G11 VDD33, G12 VDD33, H1 PD3/U1Tx, H2 PD2/U1Rx, H3 GND, H10 VDD33, H11 RSTn, H12 PF1/CAN1Tx, J1 PG2/PWM0, J2 PG3/PWM1, J3 GND, J10 GND, J11 PF2, J12 PF3, K1 PG0/U2Rx, K2 PG1/U2Tx, K3 PG4, K4 PF7, K5 GND, K6 GND, K7 VDD33, K8 VDD33, K9 VDD33, K10 GND, K11 XOSC0, K12 XOSC1, L1 PC4/PhA0, L2 PC7/C2-, L3 PA0/U0Rx, L4 PA3/SSI0Fss, L5 PA4/SSI0Rx, L6 PA6/CCP1, L7 PG6, L8 PF5/C1o, L9 PF4/C0o, L10 GND, L11 OSC0, L12 VBAT, M1 PC5/C1+, M2 PC6/C2+, M3 PA1/U0Tx, M4 PA2/SSI0Clk, M5 PA5/SSI0Tx, M6 PA7/CCP4, M7 PG5, M8 PF6/C2o, M9 PF0/CAN1Rx, M10 WAKEn, M11 OSC1, M12 HIBn

## LM3S2950-IQC
designator U?
Stellaris ARM Cortex-M3 Microcontroller; MFG: Luminary Micro; Ordering: LM3S2950-IQC; LMI Class: Fury
footprint QFP50P1600X1600X160-100N
pins: 1 PE7/PWM5, 2 PE6/PWM4, 3 VDDA, 4 GNDA, 5 PE5/CCP5, 6 PE4, 7 LDO, 8 VDD, 9 GND, 10 PD0/CAN0Rx, 11 PD1/CAN0Tx, 12 PD2/U1Rx, 13 PD3/U1Tx, 14 VDD25, 15 GND, 16 PG3/PWM1, 17 PG2/PWM0, 18 PG1/U2Tx, 19 PG0/U2Rx, 20 VDD, 21 GND, 22 PC7/C2-, 23 PC6/C2+, 24 PC5/C1+, 25 PC4/PhA0, 26 PA0/U0Rx, 27 PA1/U0Tx, 28 PA2/SSI0Clk, 29 PA3/SSI0Fss, 30 PA4/SSI0Rx, 31 PA5/SSI0Tx, 32 VDD, 33 GND, 34 PA6/CCP1, 35 PA7/CCP4, 36 PG7, 37 PG6, 38 VDD25, 39 GND, 40 PG5, 41 PG4, 42 PF7, 43 PF6/C2o, 44 VDD, 45 GND, 46 PF5/C1o, 47 PF0/CAN1Rx, 48 OSC0, 49 OSC1, 50 WAKEn, 51 HIBn, 52 XOSC0, 53 XOSC1, 54 GND, 55 VBAT, 56 VDD, 57 GND, 58 PF4/C0o, 59 PF3, 60 PF2, 61 PF1/CAN1Tx, 62 VDD25, 63 GND, 64 RSTn, 65 CMOD0, 66 PB0/CCP0, 67 PB1/CCP2, 68 VDD, 69 GND, 70 PB2/I2C0SCL, 71 PB3/I2C0SDA, 72 PE0/SSI1Clk, 73 PE1/SSI1Fss, 74 PE2/SSI1Rx, 75 PE3/SSI1Tx, 76 CMOD1, 77 PC3/TDO/SWO, 78 PC2/TDI, 79 PC1/TMS/SWDIO, 80 PC0/TCK/SWCLK, 81 VDD, 82 GND, 83 PH3/PhB0, 84 PH2, 85 PH1/PWM3, 86 PH0/PWM2, 87 GND, 88 VDD25, 89 PB7/TRSTn, 90 PB6/C0+, 91 PB5/C1-, 92 PB4/C0-, 93 VDD, 94 GND, 95 PD4/CCP3, 96 PD5, 97 GNDA, 98 VDDA, 99 PD6/Fault, 100 PD7/IDX0

## LM3S2965-IBZ
designator U1
Stellaris ARM Cortex-M3 Microcontroller; MFG: Luminary Micro; Ordering: LM3S2965-IBZ; LMI Class: Fury
footprint BGA108C80P12X12_1000X1000X150 (BGA, 108-Leads, Body 10.0x10.0mm,  Pitch 0.80mm)
pins: A1 ADC1, A2 NC, A3 NC, A4 NC, A5 GNDA, A6 PB4/C0-, A7 PB6/C0+, A8 PB7/TRSTn, A9 PC0/TCK/SWCLK, A10 PC3/TDO/SWO, A11 PE0/SSI1Clk, A12 PE3/SSI1Tx, B1 ADC0, B2 ADC3, B3 ADC2, B4 NC, B5 GNDA, B6 GND, B7 PB5/C1-, B8 PC2/TDI, B9 PC1/TMS/SWDIO, B10 CMOD1, B11 PE2/SSI1Rx, B12 PE1/SSI1Fss, C1 NC, C2 NC, C3 VDD25, C4 GND, C5 GND, C6 VDDA, C7 VDDA, C8 PH1/PWM3, C9 PH0/PWM2, C10 PG7/PhB1, C11 PB2/I2C0SCL, C12 PB3/I2C0SDA, D1 NC, D2 NC, D3 VDD25, D10 PH3/PhB0, D11 PH2/IDX1, D12 PB1/CCP2, E1 PD4/CCP3, E2 PD5/CCP4, E3 LDO, E10 VDD33, E11 CMOD0, E12 PB0/CCP0, F1 PD7/IDX0, F2 PD6/Fault, F3 VDD25, F10 GND, F11 GND, F12 GND, G1 PD0/CAN0Rx, G2 PD1/CAN0Tx, G3 VDD25, G10 VDD33, G11 VDD33, G12 VDD33, H1 PD3/U1Tx, H2 PD2/U1Rx, H3 GND, H10 VDD33, H11 RSTn, H12 PF1/CAN1Tx, J1 PG2/PWM0, J2 PG3/PWM1, J3 GND, J10 GND, J11 PF2/PWM4, J12 PF3/PWM5, K1 PG0/U2Rx, K2 PG1/U2Tx, K3 PG4, K4 PF7, K5 GND, K6 GND, K7 VDD33, K8 VDD33, K9 VDD33, K10 GND, K11 XOSC0, K12 XOSC1, L1 PC4/PhA0, L2 PC7/C2-, L3 PA0/U0Rx, L4 PA3/SSI0Fss, L5 PA4/SSI0Rx, L6 PA6/I2C1SCL, L7 PG6/PhA1, L8 PF5, L9 PF4/C0o, L10 GND, L11 OSC0, L12 VBAT, M1 PC5/C1+, M2 PC6/C2+, M3 PA1/U0Tx, M4 PA2/SSI0Clk, M5 PA5/SSI0Tx, M6 PA7/I2C1SDA, M7 PG5/CCP5, M8 PF6/CCP1, M9 PF0/CAN1Rx, M10 WAKEn, M11 OSC1, M12 HIBn

## LM3S2965-IQC
designator U?
Stellaris ARM Cortex-M3 Microcontroller; MFG: Luminary Micro; Ordering: LM3S2965-IQC; LMI Class: Fury
footprint QFP50P1600X1600X160-100N
pins: 1 ADC0, 2 ADC1, 3 VDDA, 4 GNDA, 5 ADC2, 6 ADC3, 7 LDO, 8 VDD, 9 GND, 10 PD0/CAN0Rx, 11 PD1/CAN0Tx, 12 PD2/U1Rx, 13 PD3/U1Tx, 14 VDD25, 15 GND, 16 PG3/PWM1, 17 PG2/PWM0, 18 PG1/U2Tx, 19 PG0/U2Rx, 20 VDD, 21 GND, 22 PC7/C2-, 23 PC6/C2+, 24 PC5/C1+, 25 PC4/PhA0, 26 PA0/U0Rx, 27 PA1/U0Tx, 28 PA2/SSI0Clk, 29 PA3/SSI0Fss, 30 PA4/SSI0Rx, 31 PA5/SSI0Tx, 32 VDD, 33 GND, 34 PA6/I2C1SCL, 35 PA7/I2C1SDA, 36 PG7/PhB1, 37 PG6/PhA1, 38 VDD25, 39 GND, 40 PG5/CCP5, 41 PG4, 42 PF7, 43 PF6/CCP1, 44 VDD, 45 GND, 46 PF5, 47 PF0/CAN1Rx, 48 OSC0, 49 OSC1, 50 WAKEn, 51 HIBn, 52 XOSC0, 53 XOSC1, 54 GND, 55 VBAT, 56 VDD, 57 GND, 58 PF4/C0o, 59 PF3/PWM5, 60 PF2/PWM4, 61 PF1/CAN1Tx, 62 VDD25, 63 GND, 64 RSTn, 65 CMOD0, 66 PB0/CCP0, 67 PB1/CCP2, 68 VDD, 69 GND, 70 PB2/I2C0SCL, 71 PB3/I2C0SDA, 72 PE0/SSI1Clk, 73 PE1/SSI1Fss, 74 PE2/SSI1Rx, 75 PE3/SSI1Tx, 76 CMOD1, 77 PC3/TDO/SWO, 78 PC2/TDI, 79 PC1/TMS/SWDIO, 80 PC0/TCK/SWCLK, 81 VDD, 82 GND, 83 PH3/PhB0, 84 PH2/IDX1, 85 PH1/PWM3, 86 PH0/PWM2, 87 GND, 88 VDD25, 89 PB7/TRSTn, 90 PB6/C0+, 91 PB5/C1-, 92 PB4/C0-, 93 VDD, 94 GND, 95 PD4/CCP3, 96 PD5/CCP4, 97 GNDA, 98 VDDA, 99 PD6/Fault, 100 PD7/IDX0

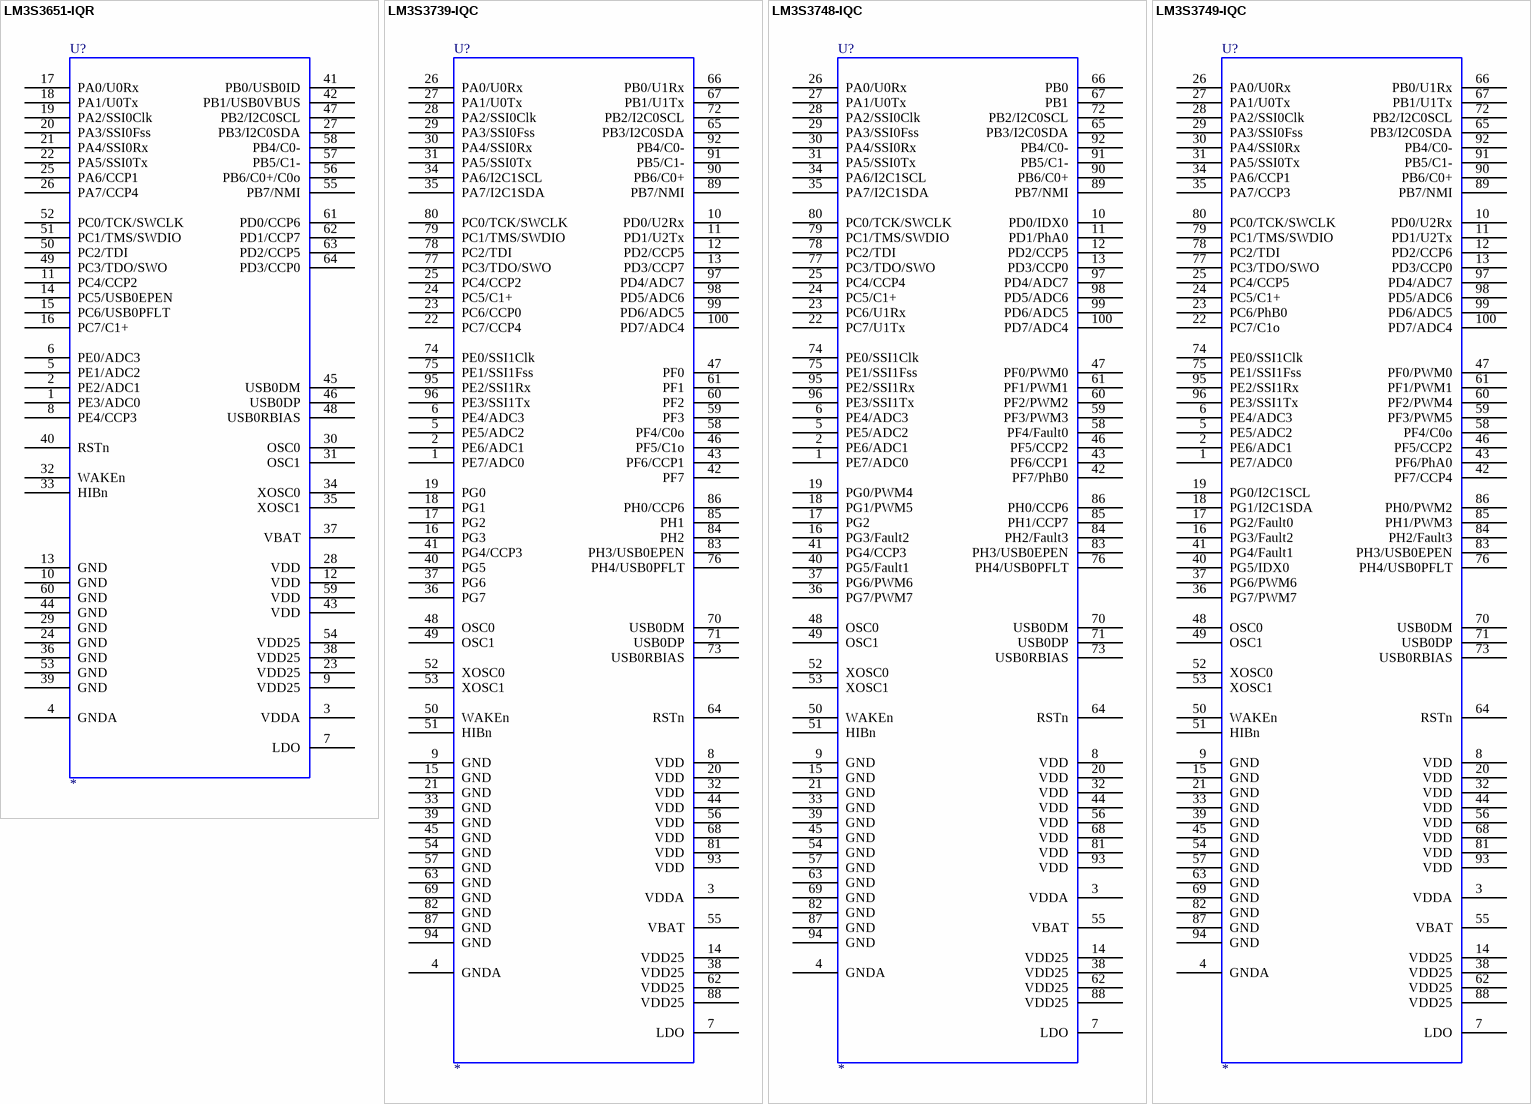
[diagram p28: symbols LM3S3651-IQR to LM3S3749-IQC]

## LM3S3651-IQR
designator U?
Stellaris ARM Cortex-M3 Microcontroller; MFG: Luminary Micro; Ordering: LM3S3651-IQR; LMI Class: Dust Devil
footprint QFP50P1200X1200X160-64N
pins: 1 PE3/ADC0, 2 PE2/ADC1, 3 VDDA, 4 GNDA, 5 PE1/ADC2, 6 PE0/ADC3, 7 LDO, 8 PE4/CCP3, 9 VDD25, 10 GND, 11 PC4/CCP2, 12 VDD, 13 GND, 14 PC5/USB0EPEN, 15 PC6/USB0PFLT, 16 PC7/C1+, 17 PA0/U0Rx, 18 PA1/U0Tx, 19 PA2/SSI0Clk, 20 PA3/SSI0Fss, 21 PA4/SSI0Rx, 22 PA5/SSI0Tx, 23 VDD25, 24 GND, 25 PA6/CCP1, 26 PA7/CCP4, 27 PB3/I2C0SDA, 28 VDD, 29 GND, 30 OSC0, 31 OSC1, 32 WAKEn, 33 HIBn, 34 XOSC0, 35 XOSC1, 36 GND, 37 VBAT, 38 VDD25, 39 GND, 40 RSTn, 41 PB0/USB0ID, 42 PB1/USB0VBUS, 43 VDD, 44 GND, 45 USB0DM, 46 USB0DP, 47 PB2/I2C0SCL, 48 USB0RBIAS, 49 PC3/TDO/SWO, 50 PC2/TDI, 51 PC1/TMS/SWDIO, 52 PC0/TCK/SWCLK, 53 GND, 54 VDD25, 55 PB7/NMI, 56 PB6/C0+/C0o, 57 PB5/C1-, 58 PB4/C0-, 59 VDD, 60 GND, 61 PD0/CCP6, 62 PD1/CCP7, 63 PD2/CCP5, 64 PD3/CCP0

## LM3S3739-IQC
designator U?
Stellaris ARM Cortex-M3 Microcontroller; MFG: Luminary Micro; Ordering: LM3S3739-IQC; LMI Class: Dust Devil
footprint QFP50P1600X1600X160-100N
pins: 1 PE7/ADC0, 2 PE6/ADC1, 3 VDDA, 4 GNDA, 5 PE5/ADC2, 6 PE4/ADC3, 7 LDO, 8 VDD, 9 GND, 10 PD0/U2Rx, 11 PD1/U2Tx, 12 PD2/CCP5, 13 PD3/CCP7, 14 VDD25, 15 GND, 16 PG3, 17 PG2, 18 PG1, 19 PG0, 20 VDD, 21 GND, 22 PC7/CCP4, 23 PC6/CCP0, 24 PC5/C1+, 25 PC4/CCP2, 26 PA0/U0Rx, 27 PA1/U0Tx, 28 PA2/SSI0Clk, 29 PA3/SSI0Fss, 30 PA4/SSI0Rx, 31 PA5/SSI0Tx, 32 VDD, 33 GND, 34 PA6/I2C1SCL, 35 PA7/I2C1SDA, 36 PG7, 37 PG6, 38 VDD25, 39 GND, 40 PG5, 41 PG4/CCP3, 42 PF7, 43 PF6/CCP1, 44 VDD, 45 GND, 46 PF5/C1o, 47 PF0, 48 OSC0, 49 OSC1, 50 WAKEn, 51 HIBn, 52 XOSC0, 53 XOSC1, 54 GND, 55 VBAT, 56 VDD, 57 GND, 58 PF4/C0o, 59 PF3, 60 PF2, 61 PF1, 62 VDD25, 63 GND, 64 RSTn, 65 PB3/I2C0SDA, 66 PB0/U1Rx, 67 PB1/U1Tx, 68 VDD, 69 GND, 70 USB0DM, 71 USB0DP, 72 PB2/I2C0SCL, 73 USB0RBIAS, 74 PE0/SSI1Clk, 75 PE1/SSI1Fss, 76 PH4/USB0PFLT, 77 PC3/TDO/SWO, 78 PC2/TDI, 79 PC1/TMS/SWDIO, 80 PC0/TCK/SWCLK, 81 VDD, 82 GND, 83 PH3/USB0EPEN, 84 PH2, 85 PH1, 86 PH0/CCP6, 87 GND, 88 VDD25, 89 PB7/NMI, 90 PB6/C0+, 91 PB5/C1-, 92 PB4/C0-, 93 VDD, 94 GND, 95 PE2/SSI1Rx, 96 PE3/SSI1Tx, 97 PD4/ADC7, 98 PD5/ADC6, 99 PD6/ADC5, 100 PD7/ADC4

## LM3S3748-IQC
designator U?
Stellaris ARM Cortex-M3 Microcontroller; MFG: Luminary Micro; Ordering: LM3S3748-IQC; LMI Class: Dust Devil
footprint QFP50P1600X1600X160-100N
pins: 1 PE7/ADC0, 2 PE6/ADC1, 3 VDDA, 4 GNDA, 5 PE5/ADC2, 6 PE4/ADC3, 7 LDO, 8 VDD, 9 GND, 10 PD0/IDX0, 11 PD1/PhA0, 12 PD2/CCP5, 13 PD3/CCP0, 14 VDD25, 15 GND, 16 PG3/Fault2, 17 PG2, 18 PG1/PWM5, 19 PG0/PWM4, 20 VDD, 21 GND, 22 PC7/U1Tx, 23 PC6/U1Rx, 24 PC5/C1+, 25 PC4/CCP4, 26 PA0/U0Rx, 27 PA1/U0Tx, 28 PA2/SSI0Clk, 29 PA3/SSI0Fss, 30 PA4/SSI0Rx, 31 PA5/SSI0Tx, 32 VDD, 33 GND, 34 PA6/I2C1SCL, 35 PA7/I2C1SDA, 36 PG7/PWM7, 37 PG6/PWM6, 38 VDD25, 39 GND, 40 PG5/Fault1, 41 PG4/CCP3, 42 PF7/PhB0, 43 PF6/CCP1, 44 VDD, 45 GND, 46 PF5/CCP2, 47 PF0/PWM0, 48 OSC0, 49 OSC1, 50 WAKEn, 51 HIBn, 52 XOSC0, 53 XOSC1, 54 GND, 55 VBAT, 56 VDD, 57 GND, 58 PF4/Fault0, 59 PF3/PWM3, 60 PF2/PWM2, 61 PF1/PWM1, 62 VDD25, 63 GND, 64 RSTn, 65 PB3/I2C0SDA, 66 PB0, 67 PB1, 68 VDD, 69 GND, 70 USB0DM, 71 USB0DP, 72 PB2/I2C0SCL, 73 USB0RBIAS, 74 PE0/SSI1Clk, 75 PE1/SSI1Fss, 76 PH4/USB0PFLT, 77 PC3/TDO/SWO, 78 PC2/TDI, 79 PC1/TMS/SWDIO, 80 PC0/TCK/SWCLK, 81 VDD, 82 GND, 83 PH3/USB0EPEN, 84 PH2/Fault3, 85 PH1/CCP7, 86 PH0/CCP6, 87 GND, 88 VDD25, 89 PB7/NMI, 90 PB6/C0+, 91 PB5/C1-, 92 PB4/C0-, 93 VDD, 94 GND, 95 PE2/SSI1Rx, 96 PE3/SSI1Tx, 97 PD4/ADC7, 98 PD5/ADC6, 99 PD6/ADC5, 100 PD7/ADC4

## LM3S3749-IQC
designator U?
Stellaris ARM Cortex-M3 Microcontroller; MFG: Luminary Micro; Ordering: LM3S3749-IQC; LMI Class: Dust Devil
footprint QFP50P1600X1600X160-100N
pins: 1 PE7/ADC0, 2 PE6/ADC1, 3 VDDA, 4 GNDA, 5 PE5/ADC2, 6 PE4/ADC3, 7 LDO, 8 VDD, 9 GND, 10 PD0/U2Rx, 11 PD1/U2Tx, 12 PD2/CCP6, 13 PD3/CCP0, 14 VDD25, 15 GND, 16 PG3/Fault2, 17 PG2/Fault0, 18 PG1/I2C1SDA, 19 PG0/I2C1SCL, 20 VDD, 21 GND, 22 PC7/C1o, 23 PC6/PhB0, 24 PC5/C1+, 25 PC4/CCP5, 26 PA0/U0Rx, 27 PA1/U0Tx, 28 PA2/SSI0Clk, 29 PA3/SSI0Fss, 30 PA4/SSI0Rx, 31 PA5/SSI0Tx, 32 VDD, 33 GND, 34 PA6/CCP1, 35 PA7/CCP3, 36 PG7/PWM7, 37 PG6/PWM6, 38 VDD25, 39 GND, 40 PG5/IDX0, 41 PG4/Fault1, 42 PF7/CCP4, 43 PF6/PhA0, 44 VDD, 45 GND, 46 PF5/CCP2, 47 PF0/PWM0, 48 OSC0, 49 OSC1, 50 WAKEn, 51 HIBn, 52 XOSC0, 53 XOSC1, 54 GND, 55 VBAT, 56 VDD, 57 GND, 58 PF4/C0o, 59 PF3/PWM5, 60 PF2/PWM4, 61 PF1/PWM1, 62 VDD25, 63 GND, 64 RSTn, 65 PB3/I2C0SDA, 66 PB0/U1Rx, 67 PB1/U1Tx, 68 VDD, 69 GND, 70 USB0DM, 71 USB0DP, 72 PB2/I2C0SCL, 73 USB0RBIAS, 74 PE0/SSI1Clk, 75 PE1/SSI1Fss, 76 PH4/USB0PFLT, 77 PC3/TDO/SWO, 78 PC2/TDI, 79 PC1/TMS/SWDIO, 80 PC0/TCK/SWCLK, 81 VDD, 82 GND, 83 PH3/USB0EPEN, 84 PH2/Fault3, 85 PH1/PWM3, 86 PH0/PWM2, 87 GND, 88 VDD25, 89 PB7/NMI, 90 PB6/C0+, 91 PB5/C1-, 92 PB4/C0-, 93 VDD, 94 GND, 95 PE2/SSI1Rx, 96 PE3/SSI1Tx, 97 PD4/ADC7, 98 PD5/ADC6, 99 PD6/ADC5, 100 PD7/ADC4

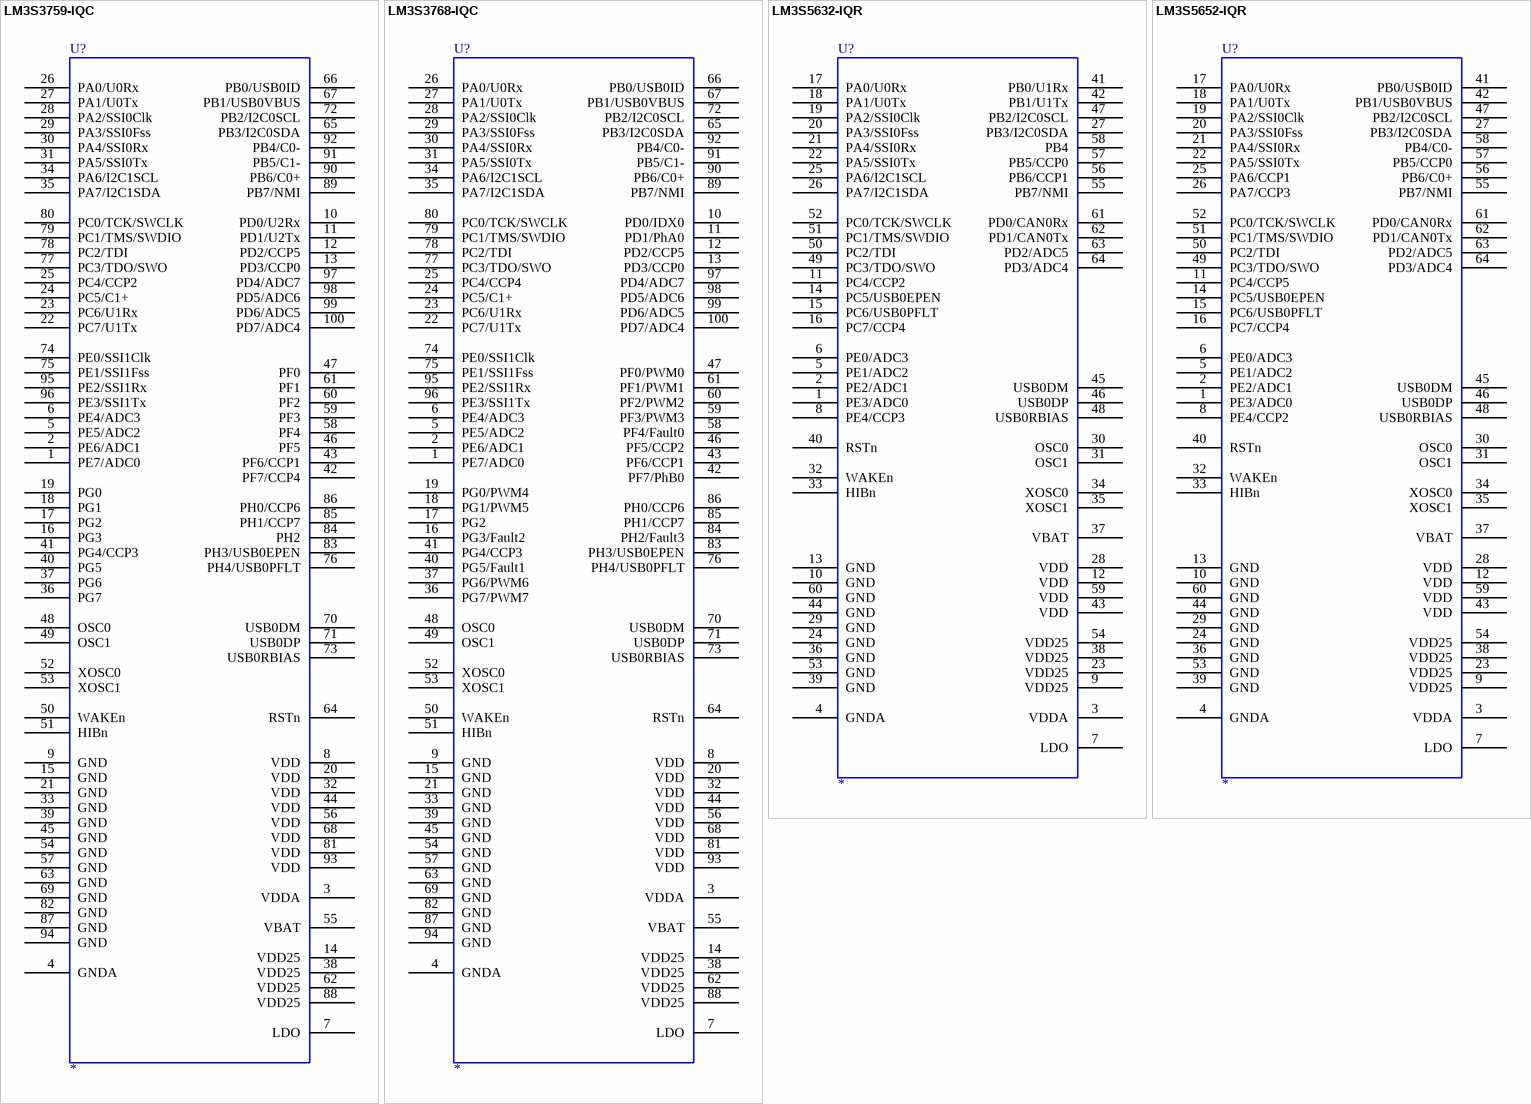
[diagram p29: symbols LM3S3759-IQC to LM3S5652-IQR]

## LM3S3759-IQC
designator U?
Stellaris ARM Cortex-M3 Microcontroller; MFG: Luminary Micro; Ordering: LM3S3759-IQC; LMI Class: Dust Devil
footprint QFP50P1600X1600X160-100N
pins: 1 PE7/ADC0, 2 PE6/ADC1, 3 VDDA, 4 GNDA, 5 PE5/ADC2, 6 PE4/ADC3, 7 LDO, 8 VDD, 9 GND, 10 PD0/U2Rx, 11 PD1/U2Tx, 12 PD2/CCP5, 13 PD3/CCP0, 14 VDD25, 15 GND, 16 PG3, 17 PG2, 18 PG1, 19 PG0, 20 VDD, 21 GND, 22 PC7/U1Tx, 23 PC6/U1Rx, 24 PC5/C1+, 25 PC4/CCP2, 26 PA0/U0Rx, 27 PA1/U0Tx, 28 PA2/SSI0Clk, 29 PA3/SSI0Fss, 30 PA4/SSI0Rx, 31 PA5/SSI0Tx, 32 VDD, 33 GND, 34 PA6/I2C1SCL, 35 PA7/I2C1SDA, 36 PG7, 37 PG6, 38 VDD25, 39 GND, 40 PG5, 41 PG4/CCP3, 42 PF7/CCP4, 43 PF6/CCP1, 44 VDD, 45 GND, 46 PF5, 47 PF0, 48 OSC0, 49 OSC1, 50 WAKEn, 51 HIBn, 52 XOSC0, 53 XOSC1, 54 GND, 55 VBAT, 56 VDD, 57 GND, 58 PF4, 59 PF3, 60 PF2, 61 PF1, 62 VDD25, 63 GND, 64 RSTn, 65 PB3/I2C0SDA, 66 PB0/USB0ID, 67 PB1/USB0VBUS, 68 VDD, 69 GND, 70 USB0DM, 71 USB0DP, 72 PB2/I2C0SCL, 73 USB0RBIAS, 74 PE0/SSI1Clk, 75 PE1/SSI1Fss, 76 PH4/USB0PFLT, 77 PC3/TDO/SWO, 78 PC2/TDI, 79 PC1/TMS/SWDIO, 80 PC0/TCK/SWCLK, 81 VDD, 82 GND, 83 PH3/USB0EPEN, 84 PH2, 85 PH1/CCP7, 86 PH0/CCP6, 87 GND, 88 VDD25, 89 PB7/NMI, 90 PB6/C0+, 91 PB5/C1-, 92 PB4/C0-, 93 VDD, 94 GND, 95 PE2/SSI1Rx, 96 PE3/SSI1Tx, 97 PD4/ADC7, 98 PD5/ADC6, 99 PD6/ADC5, 100 PD7/ADC4